# Altium integrated library Actel 42MX.IntLib: 261 symbols (part 14 of 17)
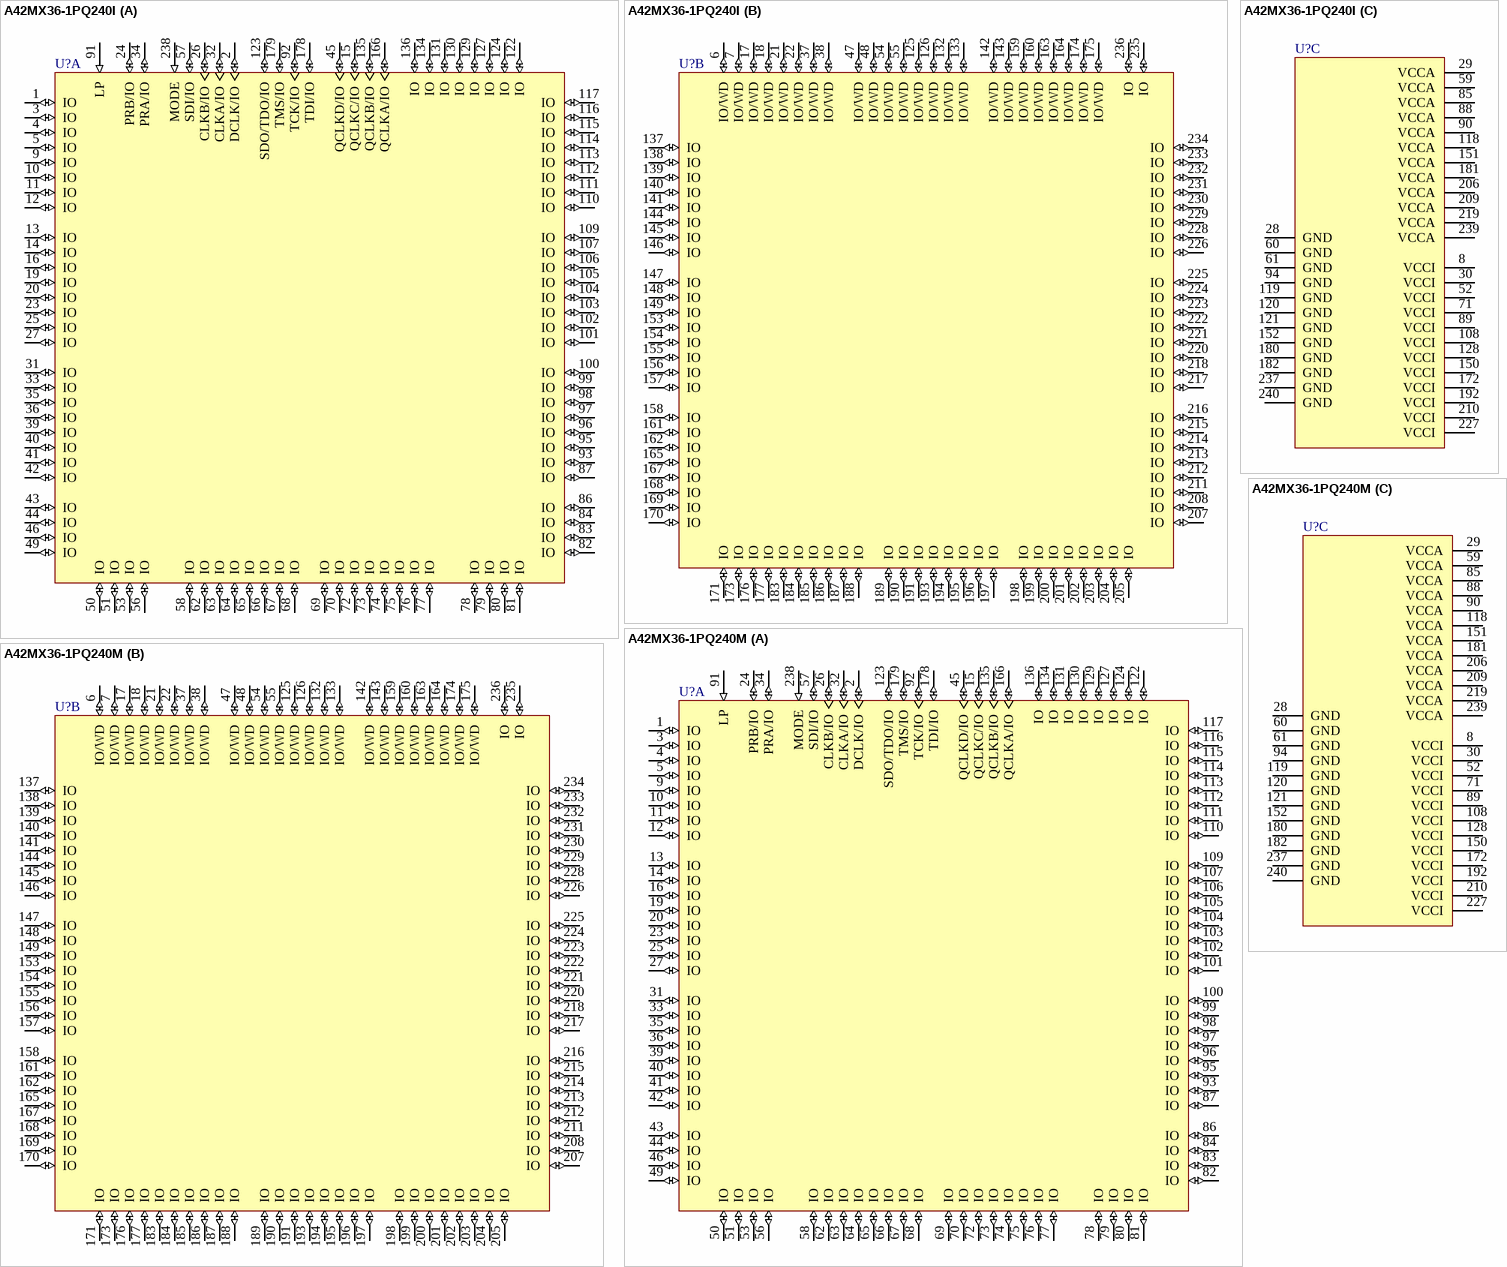
[diagram p134: symbols A42MX36-1PQ240I to A42MX36-1PQ240M]

## A42MX36-1PQ240I
designator U?
A42MX36 FPGA, 202 User IOs, 240-Pin PQFP, Speed Grade 1, Industrial Grade; Published: 21-May-2003; LatestRevisionDate: 13-Apr-2006; LatestRevisionNote: IPC-7351 Footprint Added.; DatasheetVersion: v6.0 Jan-2004; PackageVersion: v9.2, Apr-2006; PackageReference: PQ240; Publisher: Altium Limited; PackageDescription: 240-Pin Plastic Quad Flat Pack (PQ240); Code_JEDEC: MS-029-GA; ComponentLink1Description: Manufacturer Link; ComponentLink1URL: http://www.actel.com/products/mx/index.html; ComponentLink2Description: Datasheet; ComponentLink2URL: http://www.actel.com/documents/MXDS.pdf
footprint PQ240_N (Shrink QFP, 240-Leads, Body 32x32mm, Pitch 0.5mm, IPC Medium Density)
footprint PQ240_L (Shrink QFP, 240-Leads, Body 32x32mm, Pitch 0.5mm, IPC High Density)
footprint PQ240_M (Shrink QFP, 240-Leads, Body 32x32mm, Pitch 0.5mm, IPC Low Density)
3D model A42MX36-PQ240 (240-Pin Plastic Quad Flat Pack (PQ240))
part A pins: 1 IO (io), 2 DCLK/IO (io), 3 IO (io), 4 IO (io), 5 IO (io), 9 IO (io), 10 IO (io), 11 IO (io), 12 IO (io), 13 IO (io), 14 IO (io), 15 QCLKC/IO (io), 16 IO (io), 19 IO (io), 20 IO (io), 23 IO (io), 24 PRB/IO (io), 25 IO (io), 26 CLKB/IO (io), 27 IO (io), 31 IO (io), 32 CLKA/IO (io), 33 IO (io), 34 PRA/IO (io), 35 IO (io), 36 IO (io), 39 IO (io), 40 IO (io), 41 IO (io), 42 IO (io), 43 IO (io), 44 IO (io), 45 QCLKD/IO (io), 46 IO (io), 49 IO (io), 50 IO (io), 51 IO (io), 53 IO (io), 56 IO (io), 57 SDI/IO (io), 58 IO (io), 62 IO (io), 63 IO (io), 64 IO (io), 65 IO (io), 66 IO (io), 67 IO (io), 68 IO (io), 69 IO (io), 70 IO (io), 72 IO (io), 73 IO (io), 74 IO (io), 75 IO (io), 76 IO (io), 77 IO (io), 78 IO (io), 79 IO (io), 80 IO (io), 81 IO (io), 82 IO (io), 83 IO (io), 84 IO (io), 86 IO (io), 87 IO (io), 91 LP (in) "Datasheet Ver6.0", 92 TCK/IO (io), 93 IO (io), 95 IO (io), 96 IO (io), 97 IO (io), 98 IO (io), 99 IO (io), 100 IO (io), 101 IO (io), 102 IO (io), 103 IO (io), 104 IO (io), 105 IO (io), 106 IO (io), 107 IO (io), 109 IO (io), 110 IO (io), 111 IO (io), 112 IO (io), 113 IO (io), 114 IO (io), 115 IO (io), 116 IO (io), 117 IO (io), 122 IO (io), 123 SDO/TDO/IO (io), 124 IO (io), 127 IO (io), 129 IO (io), 130 IO (io), 131 IO (io), 134 IO (io), 135 QCLKB/IO (io), 136 IO (io), 166 QCLKA/IO (io), 178 TDI/IO (io), 179 TMS/IO (io), 238 MODE (in)
part B pins: 6 IO/WD (io), 7 IO/WD (io), 17 IO/WD (io), 18 IO/WD (io), 21 IO/WD (io), 22 IO/WD (io), 37 IO/WD (io), 38 IO/WD (io), 47 IO/WD (io), 48 IO/WD (io), 54 IO/WD (io), 55 IO/WD (io), 125 IO/WD (io), 126 IO/WD (io), 132 IO/WD (io), 133 IO/WD (io), 137 IO (io), 138 IO (io), 139 IO (io), 140 IO (io), 141 IO (io), 142 IO/WD (io), 143 IO/WD (io), 144 IO (io), 145 IO (io), 146 IO (io), 147 IO (io), 148 IO (io), 149 IO (io), 153 IO (io), 154 IO (io), 155 IO (io), 156 IO (io), 157 IO (io), 158 IO (io), 159 IO/WD (io), 160 IO/WD (io), 161 IO (io), 162 IO (io), 163 IO/WD (io), 164 IO/WD (io), 165 IO (io), 167 IO (io), 168 IO (io), 169 IO (io), 170 IO (io), 171 IO (io), 173 IO (io), 174 IO/WD (io), 175 IO/WD (io), 176 IO (io), 177 IO (io), 183 IO (io), 184 IO (io), 185 IO (io), 186 IO (io), 187 IO (io), 188 IO (io), 189 IO (io), 190 IO (io), 191 IO (io), 193 IO (io), 194 IO (io), 195 IO (io), 196 IO (io), 197 IO (io), 198 IO (io), 199 IO (io), 200 IO (io), 201 IO (io), 202 IO (io), 203 IO (io), 204 IO (io), 205 IO (io), 207 IO (io), 208 IO (io), 211 IO (io), 212 IO (io), 213 IO (io), 214 IO (io), 215 IO (io), 216 IO (io), 217 IO (io), 218 IO (io), 220 IO (io), 221 IO (io), 222 IO (io), 223 IO (io), 224 IO (io), 225 IO (io), 226 IO (io), 228 IO (io), 229 IO (io), 230 IO (io), 231 IO (io), 232 IO (io), 233 IO (io), 234 IO (io), 235 IO (io), 236 IO (io)
part C pins: 8 VCCI (power), 28 GND (power), 29 VCCA (power), 30 VCCI (power), 52 VCCI (power), 59 VCCA (power), 60 GND (power), 61 GND (power), 71 VCCI (power), 85 VCCA (power), 88 VCCA (power), 89 VCCI (power), 90 VCCA (power), 94 GND (power), 108 VCCI (power), 118 VCCA (power), 119 GND (power), 120 GND (power), 121 GND (power), 128 VCCI (power), 150 VCCI (power), 151 VCCA (power), 152 GND (power), 172 VCCI (power), 180 GND (power), 181 VCCA (power), 182 GND (power), 192 VCCI (power), 206 VCCA (power), 209 VCCA (power), 210 VCCI (power), 219 VCCA (power), 227 VCCI (power), 237 GND (power), 239 VCCA (power), 240 GND (power)

## A42MX36-1PQ240M
designator U?
A42MX36 FPGA, 202 User IOs, 240-Pin PQFP, Speed Grade 1, Military Grade; Published: 21-May-2003; LatestRevisionDate: 13-Apr-2006; LatestRevisionNote: IPC-7351 Footprint Added.; DatasheetVersion: v6.0 Jan-2004; PackageVersion: v9.2, Apr-2006; PackageReference: PQ240; Publisher: Altium Limited; PackageDescription: 240-Pin Plastic Quad Flat Pack (PQ240); Code_JEDEC: MS-029-GA; ComponentLink1Description: Manufacturer Link; ComponentLink1URL: http://www.actel.com/products/mx/index.html; ComponentLink2Description: Datasheet; ComponentLink2URL: http://www.actel.com/documents/MXDS.pdf
footprint PQ240_N (Shrink QFP, 240-Leads, Body 32x32mm, Pitch 0.5mm, IPC Medium Density)
footprint PQ240_L (Shrink QFP, 240-Leads, Body 32x32mm, Pitch 0.5mm, IPC High Density)
footprint PQ240_M (Shrink QFP, 240-Leads, Body 32x32mm, Pitch 0.5mm, IPC Low Density)
3D model A42MX36-PQ240 (240-Pin Plastic Quad Flat Pack (PQ240))
part A pins: 1 IO (io), 2 DCLK/IO (io), 3 IO (io), 4 IO (io), 5 IO (io), 9 IO (io), 10 IO (io), 11 IO (io), 12 IO (io), 13 IO (io), 14 IO (io), 15 QCLKC/IO (io), 16 IO (io), 19 IO (io), 20 IO (io), 23 IO (io), 24 PRB/IO (io), 25 IO (io), 26 CLKB/IO (io), 27 IO (io), 31 IO (io), 32 CLKA/IO (io), 33 IO (io), 34 PRA/IO (io), 35 IO (io), 36 IO (io), 39 IO (io), 40 IO (io), 41 IO (io), 42 IO (io), 43 IO (io), 44 IO (io), 45 QCLKD/IO (io), 46 IO (io), 49 IO (io), 50 IO (io), 51 IO (io), 53 IO (io), 56 IO (io), 57 SDI/IO (io), 58 IO (io), 62 IO (io), 63 IO (io), 64 IO (io), 65 IO (io), 66 IO (io), 67 IO (io), 68 IO (io), 69 IO (io), 70 IO (io), 72 IO (io), 73 IO (io), 74 IO (io), 75 IO (io), 76 IO (io), 77 IO (io), 78 IO (io), 79 IO (io), 80 IO (io), 81 IO (io), 82 IO (io), 83 IO (io), 84 IO (io), 86 IO (io), 87 IO (io), 91 LP (in) "Datasheet Ver6.0", 92 TCK/IO (io), 93 IO (io), 95 IO (io), 96 IO (io), 97 IO (io), 98 IO (io), 99 IO (io), 100 IO (io), 101 IO (io), 102 IO (io), 103 IO (io), 104 IO (io), 105 IO (io), 106 IO (io), 107 IO (io), 109 IO (io), 110 IO (io), 111 IO (io), 112 IO (io), 113 IO (io), 114 IO (io), 115 IO (io), 116 IO (io), 117 IO (io), 122 IO (io), 123 SDO/TDO/IO (io), 124 IO (io), 127 IO (io), 129 IO (io), 130 IO (io), 131 IO (io), 134 IO (io), 135 QCLKB/IO (io), 136 IO (io), 166 QCLKA/IO (io), 178 TDI/IO (io), 179 TMS/IO (io), 238 MODE (in)
part B pins: 6 IO/WD (io), 7 IO/WD (io), 17 IO/WD (io), 18 IO/WD (io), 21 IO/WD (io), 22 IO/WD (io), 37 IO/WD (io), 38 IO/WD (io), 47 IO/WD (io), 48 IO/WD (io), 54 IO/WD (io), 55 IO/WD (io), 125 IO/WD (io), 126 IO/WD (io), 132 IO/WD (io), 133 IO/WD (io), 137 IO (io), 138 IO (io), 139 IO (io), 140 IO (io), 141 IO (io), 142 IO/WD (io), 143 IO/WD (io), 144 IO (io), 145 IO (io), 146 IO (io), 147 IO (io), 148 IO (io), 149 IO (io), 153 IO (io), 154 IO (io), 155 IO (io), 156 IO (io), 157 IO (io), 158 IO (io), 159 IO/WD (io), 160 IO/WD (io), 161 IO (io), 162 IO (io), 163 IO/WD (io), 164 IO/WD (io), 165 IO (io), 167 IO (io), 168 IO (io), 169 IO (io), 170 IO (io), 171 IO (io), 173 IO (io), 174 IO/WD (io), 175 IO/WD (io), 176 IO (io), 177 IO (io), 183 IO (io), 184 IO (io), 185 IO (io), 186 IO (io), 187 IO (io), 188 IO (io), 189 IO (io), 190 IO (io), 191 IO (io), 193 IO (io), 194 IO (io), 195 IO (io), 196 IO (io), 197 IO (io), 198 IO (io), 199 IO (io), 200 IO (io), 201 IO (io), 202 IO (io), 203 IO (io), 204 IO (io), 205 IO (io), 207 IO (io), 208 IO (io), 211 IO (io), 212 IO (io), 213 IO (io), 214 IO (io), 215 IO (io), 216 IO (io), 217 IO (io), 218 IO (io), 220 IO (io), 221 IO (io), 222 IO (io), 223 IO (io), 224 IO (io), 225 IO (io), 226 IO (io), 228 IO (io), 229 IO (io), 230 IO (io), 231 IO (io), 232 IO (io), 233 IO (io), 234 IO (io), 235 IO (io), 236 IO (io)
part C pins: 8 VCCI (power), 28 GND (power), 29 VCCA (power), 30 VCCI (power), 52 VCCI (power), 59 VCCA (power), 60 GND (power), 61 GND (power), 71 VCCI (power), 85 VCCA (power), 88 VCCA (power), 89 VCCI (power), 90 VCCA (power), 94 GND (power), 108 VCCI (power), 118 VCCA (power), 119 GND (power), 120 GND (power), 121 GND (power), 128 VCCI (power), 150 VCCI (power), 151 VCCA (power), 152 GND (power), 172 VCCI (power), 180 GND (power), 181 VCCA (power), 182 GND (power), 192 VCCI (power), 206 VCCA (power), 209 VCCA (power), 210 VCCI (power), 219 VCCA (power), 227 VCCI (power), 237 GND (power), 239 VCCA (power), 240 GND (power)

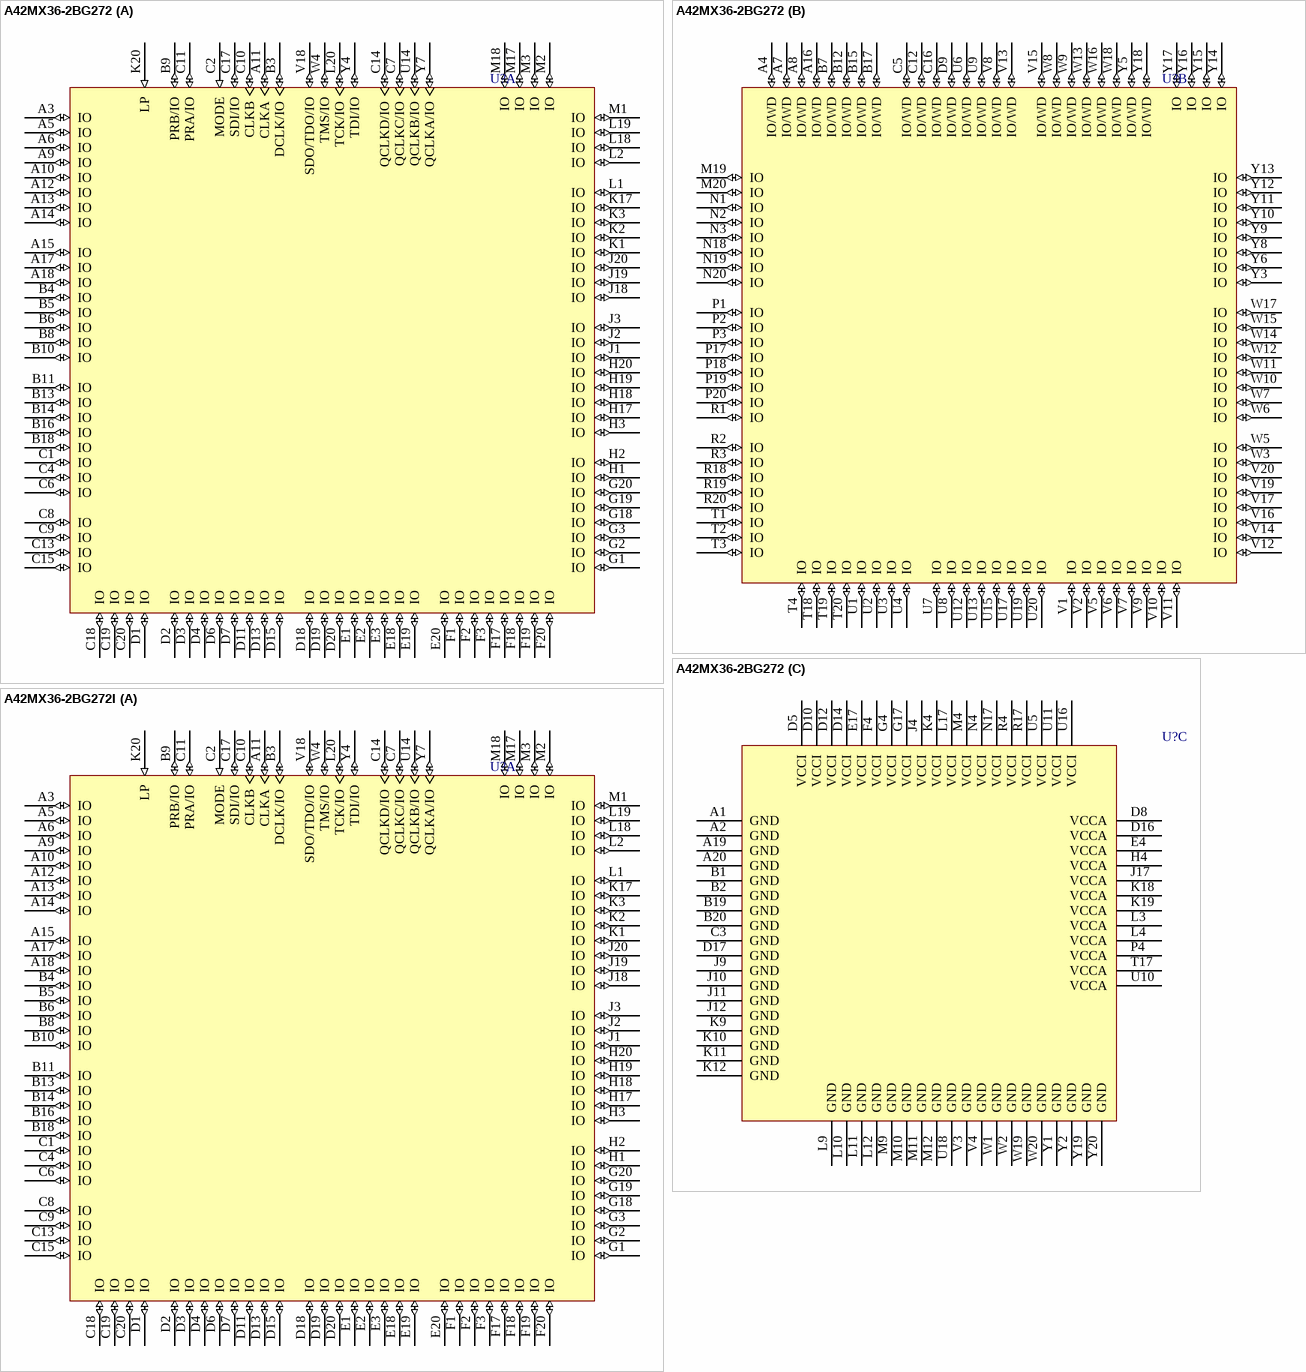
[diagram p95: symbols A42MX36-2BG272 to A42MX36-2BG272I]

## A42MX36-2BG272
designator U?
A42MX36 FPGA, 70 User IOs, 272-Pin PBGA, Speed Grade 2, Commercial Grade; Published: 21-May-2003; LatestRevisionDate: 13-Apr-2006; LatestRevisionNote: IPC-7351 Footprint Added.; DatasheetVersion: v6.0 Jan-2004; PackageVersion: v9.2, Apr-2006; PackageReference: BG272; Publisher: Altium Limited; PackageDescription: 272-Ball Plastic Ball Grid Array (BG272); Code_JEDEC: MS-034-BAL-2; ComponentLink1Description: Manufacturer Link; ComponentLink1URL: http://www.actel.com/products/mx/index.html; ComponentLink2Description: Datasheet; ComponentLink2URL: http://www.actel.com/documents/MXDS.pdf
footprint BG272 (BGA, 272-Leads, Body 27x27mm, Pitch 1.27mm)
3D model A42MX36-BG272 (272-Ball Plastic Ball Grid Array (BG272))
part A pins: A3 IO (io), A5 IO (io), A6 IO (io), A9 IO (io), A10 IO (io), A11 CLKA (io), A12 IO (io), A13 IO (io), A14 IO (io), A15 IO (io), A17 IO (io), A18 IO (io), B3 DCLK/IO (io), B4 IO (io), B5 IO (io), B6 IO (io), B8 IO (io), B9 PRB/IO (io), B10 IO (io), B11 IO (io), B13 IO (io), B14 IO (io), B16 IO (io), B18 IO (io), C1 IO (io), C2 MODE (in), C4 IO (io), C6 IO (io), C7 QCLKC/IO (io), C8 IO (io), C9 IO (io), C10 CLKB (io), C11 PRA/IO (io), C13 IO (io), C14 QCLKD/IO (io), C15 IO (io), C17 SDI/IO (io), C18 IO (io), C19 IO (io), C20 IO (io), D1 IO (io), D2 IO (io), D3 IO (io), D4 IO (io), D6 IO (io), D7 IO (io), D11 IO (io), D13 IO (io), D15 IO (io), D18 IO (io), D19 IO (io), D20 IO (io), E1 IO (io), E2 IO (io), E3 IO (io), E18 IO (io), E19 IO (io), E20 IO (io), F1 IO (io), F2 IO (io), F3 IO (io), F17 IO (io), F18 IO (io), F19 IO (io), F20 IO (io), G1 IO (io), G2 IO (io), G3 IO (io), G18 IO (io), G19 IO (io), G20 IO (io), H1 IO (io), H2 IO (io), H3 IO (io), H17 IO (io), H18 IO (io), H19 IO (io), H20 IO (io), J1 IO (io), J2 IO (io), J3 IO (io), J18 IO (io), J19 IO (io), J20 IO (io), K1 IO (io), K2 IO (io), K3 IO (io), K17 IO (io), K20 LP (in), L1 IO (io), L2 IO (io), L18 IO (io), L19 IO (io), L20 TCK/IO (io), M1 IO (io), M2 IO (io), M3 IO (io), M17 IO (io), M18 IO (io), U14 QCLKB/IO (io), V18 SDO/TDO/IO (io), W4 TMS/IO (io), Y4 TDI/IO (io), Y7 QCLKA/IO (io)
part B pins: A4 IO/WD (io), A7 IO/WD (io), A8 IO/WD (io), A16 IO/WD (io), B7 IO/WD (io), B12 IO/WD (io), B15 IO/WD (io), B17 IO/WD (io), C5 IO/WD (io), C12 IO/WD (io), C16 IO/WD (io), D9 IO/WD (io), M19 IO (io), M20 IO (io), N1 IO (io), N2 IO (io), N3 IO (io), N18 IO (io), N19 IO (io), N20 IO (io), P1 IO (io), P2 IO (io), P3 IO (io), P17 IO (io), P18 IO (io), P19 IO (io), P20 IO (io), R1 IO (io), R2 IO (io), R3 IO (io), R18 IO (io), R19 IO (io), R20 IO (io), T1 IO (io), T2 IO (io), T3 IO (io), T4 IO (io), T18 IO (io), T19 IO (io), T20 IO (io), U1 IO (io), U2 IO (io), U3 IO (io), U4 IO (io), U6 IO/WD (io), U7 IO (io), U8 IO (io), U9 IO/WD (io), U12 IO (io), U13 IO (io), U15 IO (io), U17 IO (io), U19 IO (io), U20 IO (io), V1 IO (io), V2 IO (io), V5 IO (io), V6 IO (io), V7 IO (io), V8 IO/WD (io), V9 IO (io), V10 IO (io), V11 IO (io), V12 IO (io), V13 IO/WD (io), V14 IO (io), V15 IO/WD (io), V16 IO (io), V17 IO (io), V19 IO (io), V20 IO (io), W3 IO (io), W5 IO (io), W6 IO (io), W7 IO (io), W8 IO/WD (io), W9 IO/WD (io), W10 IO (io), W11 IO (io), W12 IO (io), W13 IO/WD (io), W14 IO (io), W15 IO (io), W16 IO/WD (io), W17 IO (io), W18 IO/WD (io), Y3 IO (io), Y5 IO/WD (io), Y6 IO (io), Y8 IO (io), Y9 IO (io), Y10 IO (io), Y11 IO (io), Y12 IO (io), Y13 IO (io), Y14 IO (io), Y15 IO (io), Y16 IO (io), Y17 IO (io), Y18 IO/WD (io)
part C pins: A1 GND (power), A2 GND (power), A19 GND (power), A20 GND (power), B1 GND (power), B2 GND (power), B19 GND (power), B20 GND (power), C3 GND (power), D5 VCCI (power), D8 VCCA (power), D10 VCCI (power), D12 VCCI (power), D14 VCCI (power), D16 VCCA (power), D17 GND (power), E4 VCCA (power), E17 VCCI (power), F4 VCCI (power), G4 VCCI (power), G17 VCCI (power), H4 VCCA (power), J4 VCCI (power), J9 GND (power), J10 GND (power), J11 GND (power), J12 GND (power), J17 VCCA (power), K4 VCCI (power), K9 GND (power), K10 GND (power), K11 GND (power), K12 GND (power), K18 VCCA (power), K19 VCCA (power), L3 VCCA (power), L4 VCCA (power), L9 GND (power), L10 GND (power), L11 GND (power), L12 GND (power), L17 VCCI (power), M4 VCCI (power), M9 GND (power), M10 GND (power), M11 GND (power), M12 GND (power), N4 VCCI (power), N17 VCCI (power), P4 VCCA (power), R4 VCCI (power), R17 VCCI (power), T17 VCCA (power), U5 VCCI (power), U10 VCCA (power), U11 VCCI (power), U16 VCCI (power), U18 GND (power), V3 GND (power), V4 GND (power), W1 GND (power), W2 GND (power), W19 GND (power), W20 GND (power), Y1 GND (power), Y2 GND (power), Y19 GND (power), Y20 GND (power)

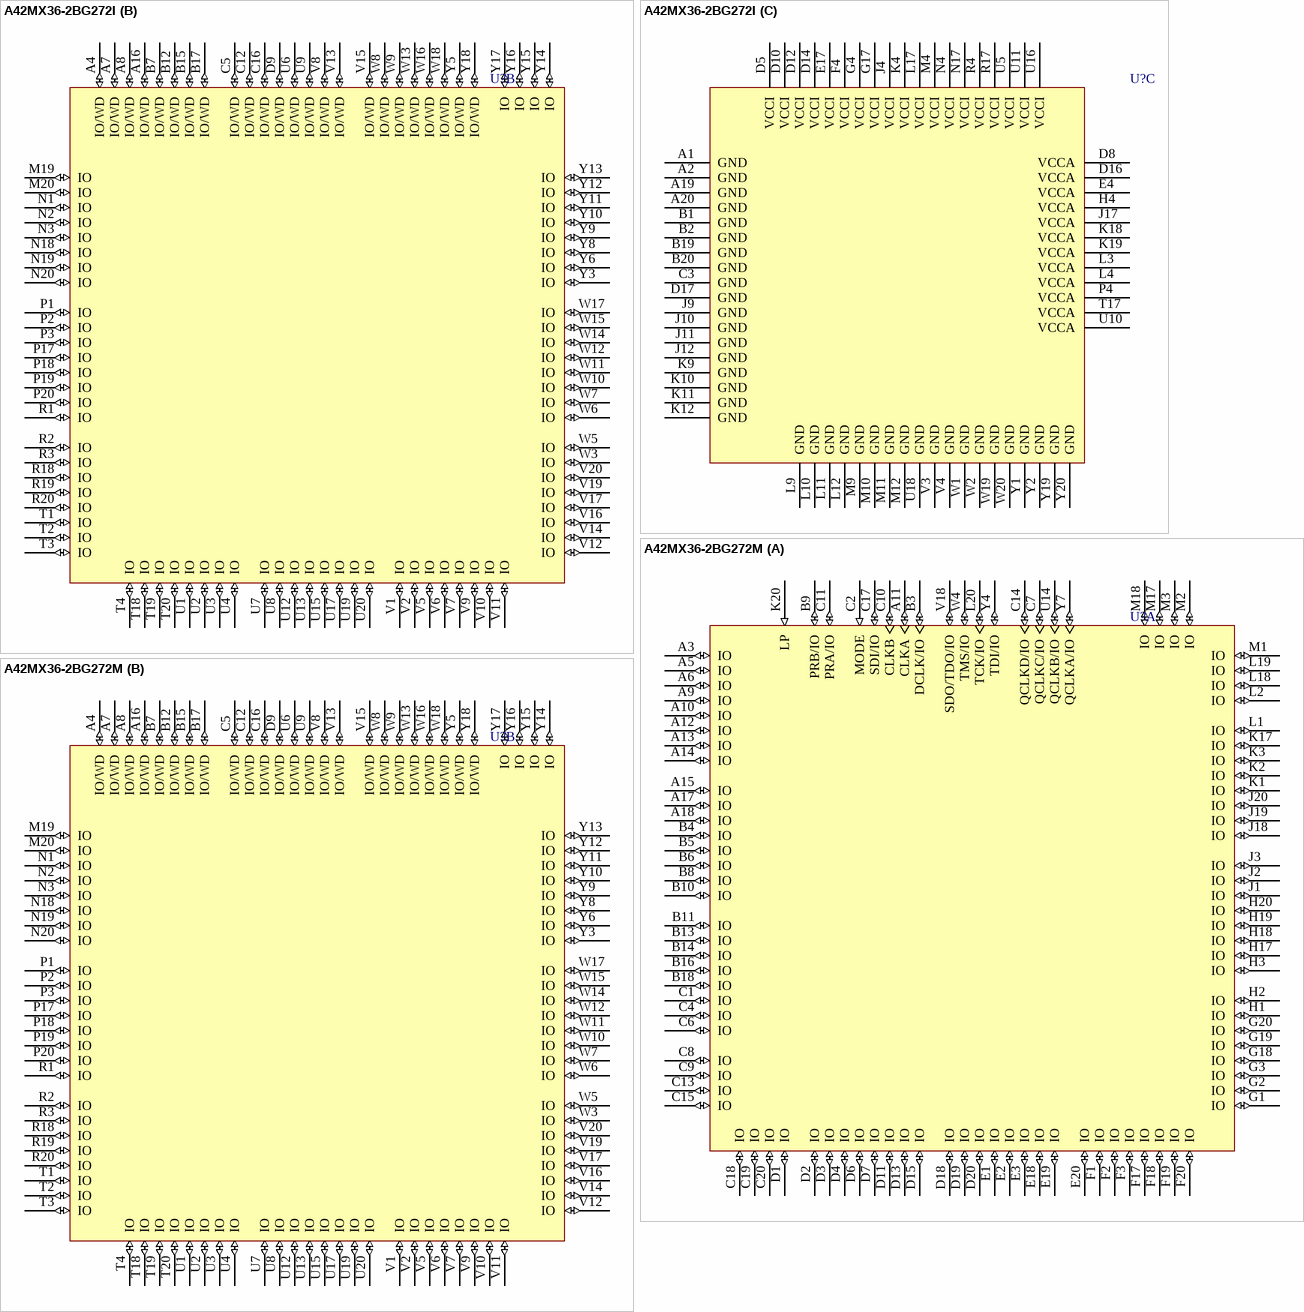
[diagram p96: symbols A42MX36-2BG272I to A42MX36-2BG272M]

## A42MX36-2BG272I
designator U?
A42MX36 FPGA, 70 User IOs, 272-Pin PBGA, Speed Grade 2, Industrial Grade; Published: 21-May-2003; LatestRevisionDate: 13-Apr-2006; LatestRevisionNote: IPC-7351 Footprint Added.; DatasheetVersion: v6.0 Jan-2004; PackageVersion: v9.2, Apr-2006; PackageReference: BG272; Publisher: Altium Limited; PackageDescription: 272-Ball Plastic Ball Grid Array (BG272); Code_JEDEC: MS-034-BAL-2; ComponentLink1Description: Manufacturer Link; ComponentLink1URL: http://www.actel.com/products/mx/index.html; ComponentLink2Description: Datasheet; ComponentLink2URL: http://www.actel.com/documents/MXDS.pdf
footprint BG272 (BGA, 272-Leads, Body 27x27mm, Pitch 1.27mm)
3D model A42MX36-BG272 (272-Ball Plastic Ball Grid Array (BG272))
part A pins: A3 IO (io), A5 IO (io), A6 IO (io), A9 IO (io), A10 IO (io), A11 CLKA (io), A12 IO (io), A13 IO (io), A14 IO (io), A15 IO (io), A17 IO (io), A18 IO (io), B3 DCLK/IO (io), B4 IO (io), B5 IO (io), B6 IO (io), B8 IO (io), B9 PRB/IO (io), B10 IO (io), B11 IO (io), B13 IO (io), B14 IO (io), B16 IO (io), B18 IO (io), C1 IO (io), C2 MODE (in), C4 IO (io), C6 IO (io), C7 QCLKC/IO (io), C8 IO (io), C9 IO (io), C10 CLKB (io), C11 PRA/IO (io), C13 IO (io), C14 QCLKD/IO (io), C15 IO (io), C17 SDI/IO (io), C18 IO (io), C19 IO (io), C20 IO (io), D1 IO (io), D2 IO (io), D3 IO (io), D4 IO (io), D6 IO (io), D7 IO (io), D11 IO (io), D13 IO (io), D15 IO (io), D18 IO (io), D19 IO (io), D20 IO (io), E1 IO (io), E2 IO (io), E3 IO (io), E18 IO (io), E19 IO (io), E20 IO (io), F1 IO (io), F2 IO (io), F3 IO (io), F17 IO (io), F18 IO (io), F19 IO (io), F20 IO (io), G1 IO (io), G2 IO (io), G3 IO (io), G18 IO (io), G19 IO (io), G20 IO (io), H1 IO (io), H2 IO (io), H3 IO (io), H17 IO (io), H18 IO (io), H19 IO (io), H20 IO (io), J1 IO (io), J2 IO (io), J3 IO (io), J18 IO (io), J19 IO (io), J20 IO (io), K1 IO (io), K2 IO (io), K3 IO (io), K17 IO (io), K20 LP (in), L1 IO (io), L2 IO (io), L18 IO (io), L19 IO (io), L20 TCK/IO (io), M1 IO (io), M2 IO (io), M3 IO (io), M17 IO (io), M18 IO (io), U14 QCLKB/IO (io), V18 SDO/TDO/IO (io), W4 TMS/IO (io), Y4 TDI/IO (io), Y7 QCLKA/IO (io)
part B pins: A4 IO/WD (io), A7 IO/WD (io), A8 IO/WD (io), A16 IO/WD (io), B7 IO/WD (io), B12 IO/WD (io), B15 IO/WD (io), B17 IO/WD (io), C5 IO/WD (io), C12 IO/WD (io), C16 IO/WD (io), D9 IO/WD (io), M19 IO (io), M20 IO (io), N1 IO (io), N2 IO (io), N3 IO (io), N18 IO (io), N19 IO (io), N20 IO (io), P1 IO (io), P2 IO (io), P3 IO (io), P17 IO (io), P18 IO (io), P19 IO (io), P20 IO (io), R1 IO (io), R2 IO (io), R3 IO (io), R18 IO (io), R19 IO (io), R20 IO (io), T1 IO (io), T2 IO (io), T3 IO (io), T4 IO (io), T18 IO (io), T19 IO (io), T20 IO (io), U1 IO (io), U2 IO (io), U3 IO (io), U4 IO (io), U6 IO/WD (io), U7 IO (io), U8 IO (io), U9 IO/WD (io), U12 IO (io), U13 IO (io), U15 IO (io), U17 IO (io), U19 IO (io), U20 IO (io), V1 IO (io), V2 IO (io), V5 IO (io), V6 IO (io), V7 IO (io), V8 IO/WD (io), V9 IO (io), V10 IO (io), V11 IO (io), V12 IO (io), V13 IO/WD (io), V14 IO (io), V15 IO/WD (io), V16 IO (io), V17 IO (io), V19 IO (io), V20 IO (io), W3 IO (io), W5 IO (io), W6 IO (io), W7 IO (io), W8 IO/WD (io), W9 IO/WD (io), W10 IO (io), W11 IO (io), W12 IO (io), W13 IO/WD (io), W14 IO (io), W15 IO (io), W16 IO/WD (io), W17 IO (io), W18 IO/WD (io), Y3 IO (io), Y5 IO/WD (io), Y6 IO (io), Y8 IO (io), Y9 IO (io), Y10 IO (io), Y11 IO (io), Y12 IO (io), Y13 IO (io), Y14 IO (io), Y15 IO (io), Y16 IO (io), Y17 IO (io), Y18 IO/WD (io)
part C pins: A1 GND (power), A2 GND (power), A19 GND (power), A20 GND (power), B1 GND (power), B2 GND (power), B19 GND (power), B20 GND (power), C3 GND (power), D5 VCCI (power), D8 VCCA (power), D10 VCCI (power), D12 VCCI (power), D14 VCCI (power), D16 VCCA (power), D17 GND (power), E4 VCCA (power), E17 VCCI (power), F4 VCCI (power), G4 VCCI (power), G17 VCCI (power), H4 VCCA (power), J4 VCCI (power), J9 GND (power), J10 GND (power), J11 GND (power), J12 GND (power), J17 VCCA (power), K4 VCCI (power), K9 GND (power), K10 GND (power), K11 GND (power), K12 GND (power), K18 VCCA (power), K19 VCCA (power), L3 VCCA (power), L4 VCCA (power), L9 GND (power), L10 GND (power), L11 GND (power), L12 GND (power), L17 VCCI (power), M4 VCCI (power), M9 GND (power), M10 GND (power), M11 GND (power), M12 GND (power), N4 VCCI (power), N17 VCCI (power), P4 VCCA (power), R4 VCCI (power), R17 VCCI (power), T17 VCCA (power), U5 VCCI (power), U10 VCCA (power), U11 VCCI (power), U16 VCCI (power), U18 GND (power), V3 GND (power), V4 GND (power), W1 GND (power), W2 GND (power), W19 GND (power), W20 GND (power), Y1 GND (power), Y2 GND (power), Y19 GND (power), Y20 GND (power)

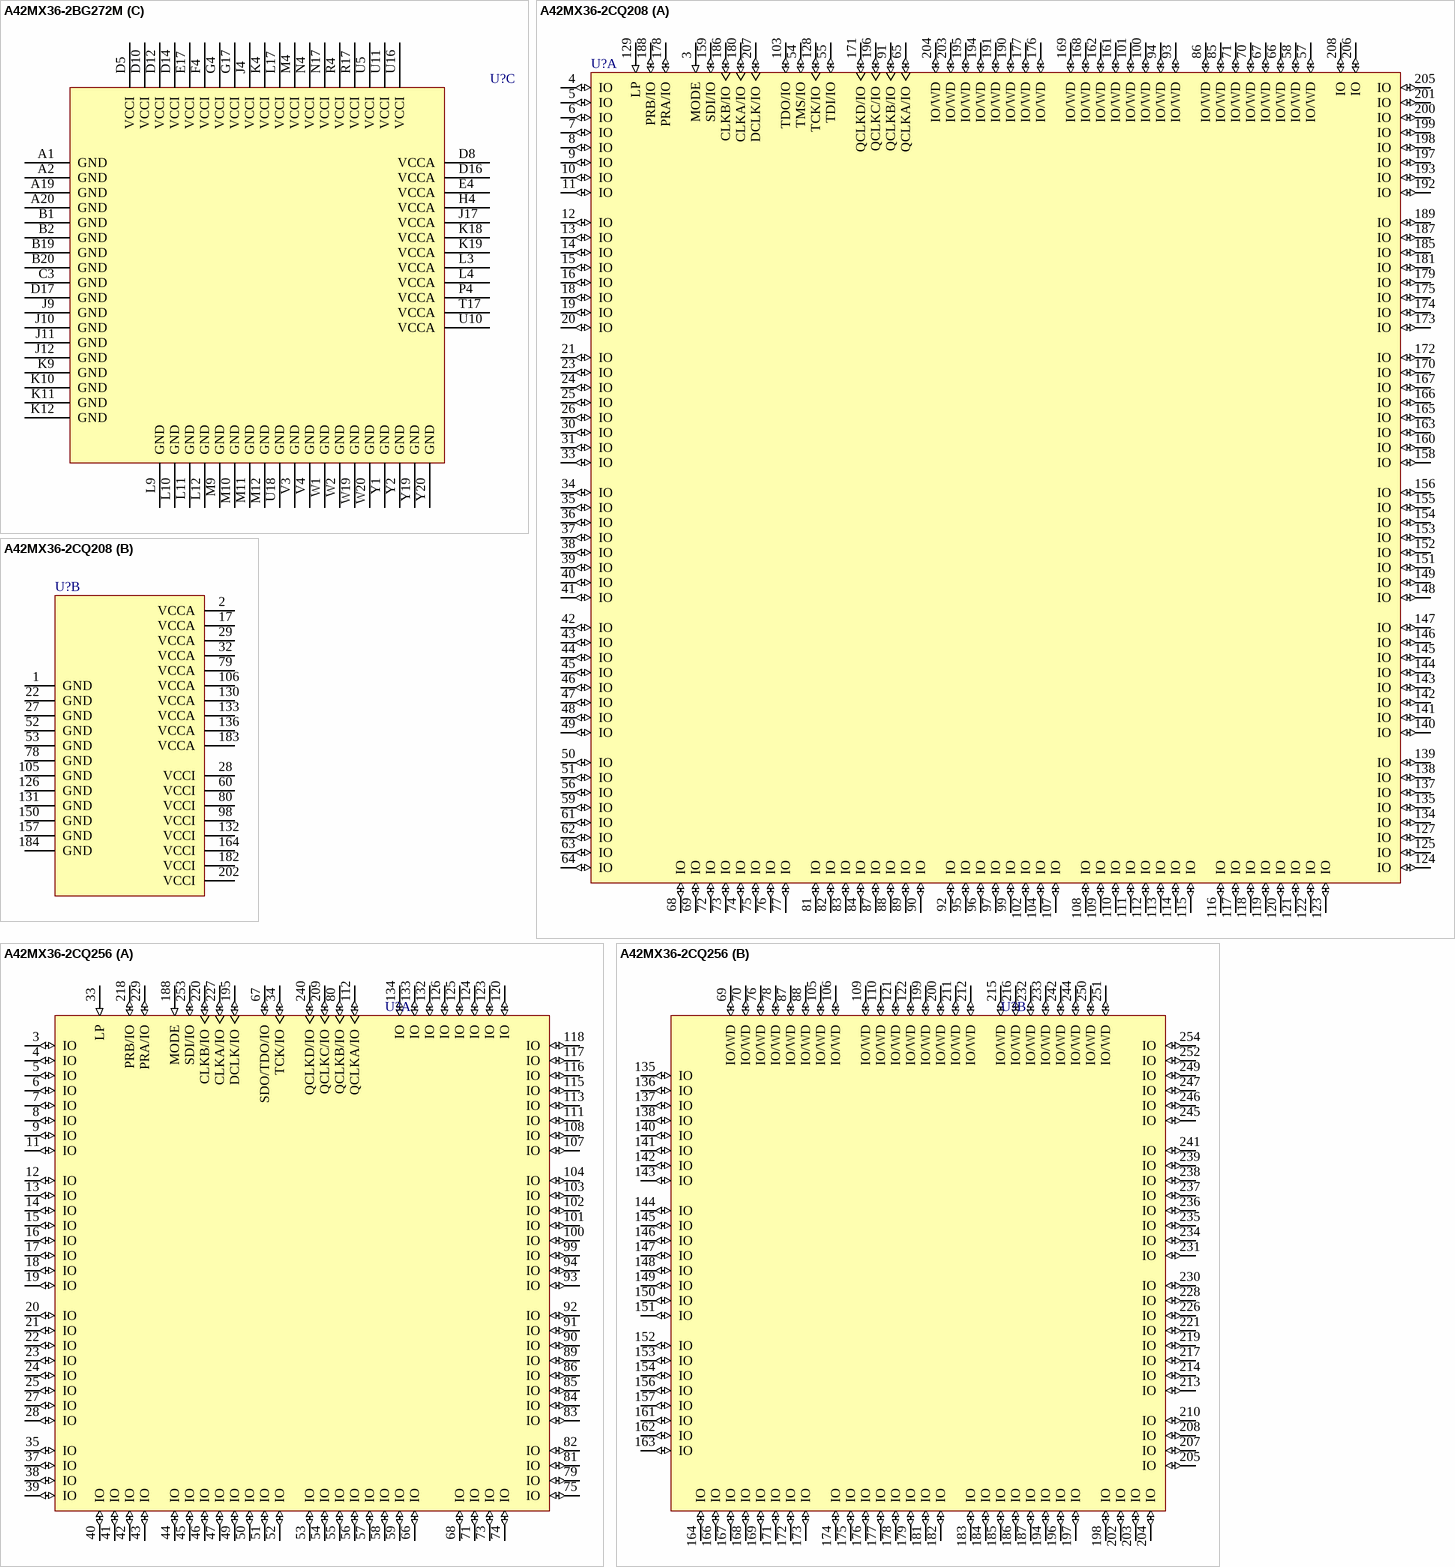
[diagram p97: symbols A42MX36-2BG272M to A42MX36-2CQ256]

## A42MX36-2BG272M
designator U?
A42MX36 FPGA, 70 User IOs, 272-Pin PBGA, Speed Grade 2, Military Grade; Published: 21-May-2003; LatestRevisionDate: 13-Apr-2006; LatestRevisionNote: IPC-7351 Footprint Added.; DatasheetVersion: v6.0 Jan-2004; PackageVersion: v9.2, Apr-2006; PackageReference: BG272; Publisher: Altium Limited; PackageDescription: 272-Ball Plastic Ball Grid Array (BG272); Code_JEDEC: MS-034-BAL-2; ComponentLink1Description: Manufacturer Link; ComponentLink1URL: http://www.actel.com/products/mx/index.html; ComponentLink2Description: Datasheet; ComponentLink2URL: http://www.actel.com/documents/MXDS.pdf
footprint BG272 (BGA, 272-Leads, Body 27x27mm, Pitch 1.27mm)
3D model A42MX36-BG272 (272-Ball Plastic Ball Grid Array (BG272))
part A pins: A3 IO (io), A5 IO (io), A6 IO (io), A9 IO (io), A10 IO (io), A11 CLKA (io), A12 IO (io), A13 IO (io), A14 IO (io), A15 IO (io), A17 IO (io), A18 IO (io), B3 DCLK/IO (io), B4 IO (io), B5 IO (io), B6 IO (io), B8 IO (io), B9 PRB/IO (io), B10 IO (io), B11 IO (io), B13 IO (io), B14 IO (io), B16 IO (io), B18 IO (io), C1 IO (io), C2 MODE (in), C4 IO (io), C6 IO (io), C7 QCLKC/IO (io), C8 IO (io), C9 IO (io), C10 CLKB (io), C11 PRA/IO (io), C13 IO (io), C14 QCLKD/IO (io), C15 IO (io), C17 SDI/IO (io), C18 IO (io), C19 IO (io), C20 IO (io), D1 IO (io), D2 IO (io), D3 IO (io), D4 IO (io), D6 IO (io), D7 IO (io), D11 IO (io), D13 IO (io), D15 IO (io), D18 IO (io), D19 IO (io), D20 IO (io), E1 IO (io), E2 IO (io), E3 IO (io), E18 IO (io), E19 IO (io), E20 IO (io), F1 IO (io), F2 IO (io), F3 IO (io), F17 IO (io), F18 IO (io), F19 IO (io), F20 IO (io), G1 IO (io), G2 IO (io), G3 IO (io), G18 IO (io), G19 IO (io), G20 IO (io), H1 IO (io), H2 IO (io), H3 IO (io), H17 IO (io), H18 IO (io), H19 IO (io), H20 IO (io), J1 IO (io), J2 IO (io), J3 IO (io), J18 IO (io), J19 IO (io), J20 IO (io), K1 IO (io), K2 IO (io), K3 IO (io), K17 IO (io), K20 LP (in), L1 IO (io), L2 IO (io), L18 IO (io), L19 IO (io), L20 TCK/IO (io), M1 IO (io), M2 IO (io), M3 IO (io), M17 IO (io), M18 IO (io), U14 QCLKB/IO (io), V18 SDO/TDO/IO (io), W4 TMS/IO (io), Y4 TDI/IO (io), Y7 QCLKA/IO (io)
part B pins: A4 IO/WD (io), A7 IO/WD (io), A8 IO/WD (io), A16 IO/WD (io), B7 IO/WD (io), B12 IO/WD (io), B15 IO/WD (io), B17 IO/WD (io), C5 IO/WD (io), C12 IO/WD (io), C16 IO/WD (io), D9 IO/WD (io), M19 IO (io), M20 IO (io), N1 IO (io), N2 IO (io), N3 IO (io), N18 IO (io), N19 IO (io), N20 IO (io), P1 IO (io), P2 IO (io), P3 IO (io), P17 IO (io), P18 IO (io), P19 IO (io), P20 IO (io), R1 IO (io), R2 IO (io), R3 IO (io), R18 IO (io), R19 IO (io), R20 IO (io), T1 IO (io), T2 IO (io), T3 IO (io), T4 IO (io), T18 IO (io), T19 IO (io), T20 IO (io), U1 IO (io), U2 IO (io), U3 IO (io), U4 IO (io), U6 IO/WD (io), U7 IO (io), U8 IO (io), U9 IO/WD (io), U12 IO (io), U13 IO (io), U15 IO (io), U17 IO (io), U19 IO (io), U20 IO (io), V1 IO (io), V2 IO (io), V5 IO (io), V6 IO (io), V7 IO (io), V8 IO/WD (io), V9 IO (io), V10 IO (io), V11 IO (io), V12 IO (io), V13 IO/WD (io), V14 IO (io), V15 IO/WD (io), V16 IO (io), V17 IO (io), V19 IO (io), V20 IO (io), W3 IO (io), W5 IO (io), W6 IO (io), W7 IO (io), W8 IO/WD (io), W9 IO/WD (io), W10 IO (io), W11 IO (io), W12 IO (io), W13 IO/WD (io), W14 IO (io), W15 IO (io), W16 IO/WD (io), W17 IO (io), W18 IO/WD (io), Y3 IO (io), Y5 IO/WD (io), Y6 IO (io), Y8 IO (io), Y9 IO (io), Y10 IO (io), Y11 IO (io), Y12 IO (io), Y13 IO (io), Y14 IO (io), Y15 IO (io), Y16 IO (io), Y17 IO (io), Y18 IO/WD (io)
part C pins: A1 GND (power), A2 GND (power), A19 GND (power), A20 GND (power), B1 GND (power), B2 GND (power), B19 GND (power), B20 GND (power), C3 GND (power), D5 VCCI (power), D8 VCCA (power), D10 VCCI (power), D12 VCCI (power), D14 VCCI (power), D16 VCCA (power), D17 GND (power), E4 VCCA (power), E17 VCCI (power), F4 VCCI (power), G4 VCCI (power), G17 VCCI (power), H4 VCCA (power), J4 VCCI (power), J9 GND (power), J10 GND (power), J11 GND (power), J12 GND (power), J17 VCCA (power), K4 VCCI (power), K9 GND (power), K10 GND (power), K11 GND (power), K12 GND (power), K18 VCCA (power), K19 VCCA (power), L3 VCCA (power), L4 VCCA (power), L9 GND (power), L10 GND (power), L11 GND (power), L12 GND (power), L17 VCCI (power), M4 VCCI (power), M9 GND (power), M10 GND (power), M11 GND (power), M12 GND (power), N4 VCCI (power), N17 VCCI (power), P4 VCCA (power), R4 VCCI (power), R17 VCCI (power), T17 VCCA (power), U5 VCCI (power), U10 VCCA (power), U11 VCCI (power), U16 VCCI (power), U18 GND (power), V3 GND (power), V4 GND (power), W1 GND (power), W2 GND (power), W19 GND (power), W20 GND (power), Y1 GND (power), Y2 GND (power), Y19 GND (power), Y20 GND (power)

## A42MX36-2CQ208
designator U?
A42MX36 FPGA, 70 User IOs, 208-Pin CQFP, Speed Grade 2, Commercial Grade; Published: 21-May-2003; LatestRevisionDate: 13-Apr-2006; LatestRevisionNote: IPC-7351 Footprint Added.; DatasheetVersion: v6.0 Jan-2004; PackageVersion: v9.2, Apr-2006; PackageReference: CQ208; Publisher: Altium Limited; PackageDescription: 208-Pin Ceramic Quad Flat Pack (CQFP); ComponentLink1Description: Manufacturer Link; ComponentLink1URL: http://www.actel.com/products/mx/index.html; ComponentLink2Description: Datasheet; ComponentLink2URL: http://www.actel.com/documents/MXDS.pdf
footprint CQ208_N (CQFP, 208-Leads, Body 29x29mm; Pitch 0.5mm, Gullwing Leadform, IPC Medium Density)
footprint CQ208_L (CQFP, 208-Leads, Body 29x29mm; Pitch 0.5mm, Gullwing Leadform, IPC High Density)
footprint CQ208_M (CQFP, 208-Leads, Body 29x29mm; Pitch 0.5mm, Gullwing Leadform, IPC Low Density)
3D model A42MX36-CQ208 (208-Pin Ceramic Quad Flat Pack (CQFP))
part A pins: 3 MODE (in), 4 IO (io), 5 IO (io), 6 IO (io), 7 IO (io), 8 IO (io), 9 IO (io), 10 IO (io), 11 IO (io), 12 IO (io), 13 IO (io), 14 IO (io), 15 IO (io), 16 IO (io), 18 IO (io), 19 IO (io), 20 IO (io), 21 IO (io), 23 IO (io), 24 IO (io), 25 IO (io), 26 IO (io), 30 IO (io), 31 IO (io), 33 IO (io), 34 IO (io), 35 IO (io), 36 IO (io), 37 IO (io), 38 IO (io), 39 IO (io), 40 IO (io), 41 IO (io), 42 IO (io), 43 IO (io), 44 IO (io), 45 IO (io), 46 IO (io), 47 IO (io), 48 IO (io), 49 IO (io), 50 IO (io), 51 IO (io), 54 TMS/IO (io), 55 TDI/IO (io), 56 IO (io), 57 IO/WD (io), 58 IO/WD (io), 59 IO (io), 61 IO (io), 62 IO (io), 63 IO (io), 64 IO (io), 65 QCLKA/IO (io), 66 IO/WD (io), 67 IO/WD (io), 68 IO (io), 69 IO (io), 70 IO/WD (io), 71 IO/WD (io), 72 IO (io), 73 IO (io), 74 IO (io), 75 IO (io), 76 IO (io), 77 IO (io), 81 IO (io), 82 IO (io), 83 IO (io), 84 IO (io), 85 IO/WD (io), 86 IO/WD (io), 87 IO (io), 88 IO (io), 89 IO (io), 90 IO (io), 91 QCLKB/IO (io), 92 IO (io), 93 IO/WD (io), 94 IO/WD (io), 95 IO (io), 96 IO (io), 97 IO (io), 99 IO (io), 100 IO/WD (io), 101 IO/WD (io), 102 IO (io), 103 TDO/IO (io), 104 IO (io), 107 IO (io), 108 IO (io), 109 IO (io), 110 IO (io), 111 IO (io), 112 IO (io), 113 IO (io), 114 IO (io), 115 IO (io), 116 IO (io), 117 IO (io), 118 IO (io), 119 IO (io), 120 IO (io), 121 IO (io), 122 IO (io), 123 IO (io), 124 IO (io), 125 IO (io), 127 IO (io), 128 TCK/IO (io), 129 LP (in), 134 IO (io), 135 IO (io), 137 IO (io), 138 IO (io), 139 IO (io), 140 IO (io), 141 IO (io), 142 IO (io), 143 IO (io), 144 IO (io), 145 IO (io), 146 IO (io), 147 IO (io), 148 IO (io), 149 IO (io), 151 IO (io), 152 IO (io), 153 IO (io), 154 IO (io), 155 IO (io), 156 IO (io), 158 IO (io), 159 SDI/IO (io), 160 IO (io), 161 IO/WD (io), 162 IO/WD (io), 163 IO (io), 165 IO (io), 166 IO (io), 167 IO (io), 168 IO/WD (io), 169 IO/WD (io), 170 IO (io), 171 QCLKD/IO (io), 172 IO (io), 173 IO (io), 174 IO (io), 175 IO (io), 176 IO/WD (io), 177 IO/WD (io), 178 PRA/IO (io), 179 IO (io), 180 CLKA/IO (io), 181 IO (io), 185 IO (io), 186 CLKB/IO (io), 187 IO (io), 188 PRB/IO (io), 189 IO (io), 190 IO/WD (io), 191 IO/WD (io), 192 IO (io), 193 IO (io), 194 IO/WD (io), 195 IO/WD (io), 196 QCLKC/IO (io), 197 IO (io), 198 IO (io), 199 IO (io), 200 IO (io), 201 IO (io), 203 IO/WD (io), 204 IO/WD (io), 205 IO (io), 206 IO (io), 207 DCLK/IO (io), 208 IO (io)
part B pins: 1 GND (power), 2 VCCA (power), 17 VCCA (power), 22 GND (power), 27 GND (power), 28 VCCI (power), 29 VCCA (power), 32 VCCA (power), 52 GND (power), 53 GND (power), 60 VCCI (power), 78 GND (power), 79 VCCA (power), 80 VCCI (power), 98 VCCI (power), 105 GND (power), 106 VCCA (power), 126 GND (power), 130 VCCA (power), 131 GND (power), 132 VCCI (power), 133 VCCA (power), 136 VCCA (power), 150 GND (power), 157 GND (power), 164 VCCI (power), 182 VCCI (power), 183 VCCA (power), 184 GND (power), 202 VCCI (power)

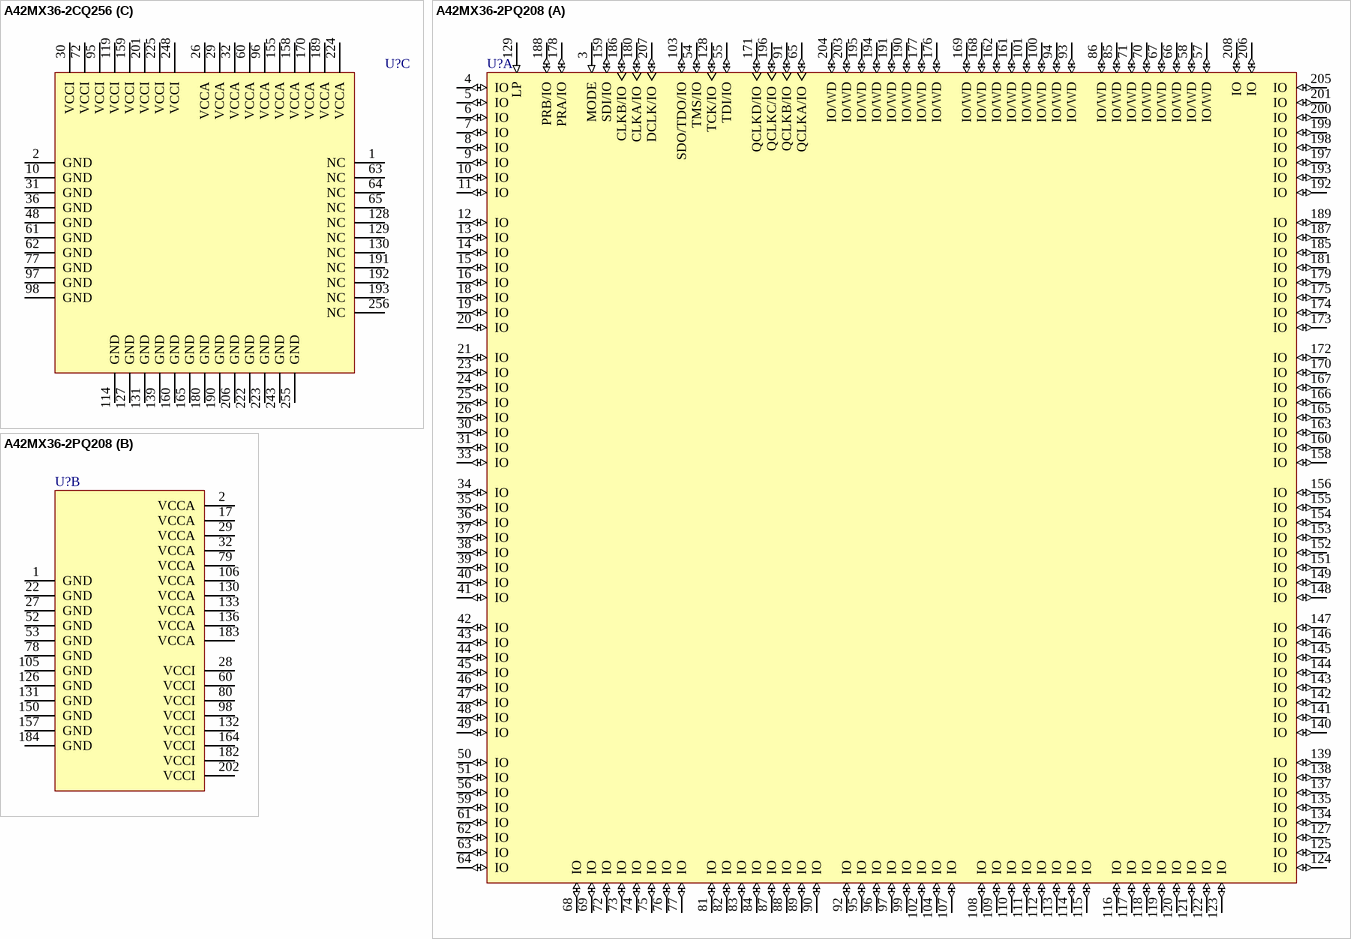
[diagram p98: symbols A42MX36-2CQ256 to A42MX36-2PQ208]

## A42MX36-2CQ256
designator U?
A42MX36 FPGA, 70 User IOs, 256-Pin CQFP, Speed Grade 2, Commercial Grade; Published: 21-May-2003; LatestRevisionDate: 13-Apr-2006; LatestRevisionNote: IPC-7351 Footprint Added.; DatasheetVersion: v6.0 Jan-2004; PackageVersion: v9.2, Apr-2006; PackageReference: CQ256; Publisher: Altium Limited; PackageDescription: 256-Pin Ceramic Quad Flat Pack (CQFP); Code_JEDEC: MO-134-AB; ComponentLink1Description: Manufacturer Link; ComponentLink1URL: http://www.actel.com/products/mx/index.html; ComponentLink2Description: Datasheet; ComponentLink2URL: http://www.actel.com/documents/MXDS.pdf
footprint CQ256_N (CQFP, 256-Leads, Body 36x36mm; Pitch 0.5mm, Gullwing Leadform, IPC Medium Density)
footprint CQ256_L (CQFP, 256-Leads, Body 36x36mm; Pitch 0.5mm, Gullwing Leadform, IPC High Density)
footprint CQ256_M (CQFP, 256-Leads, Body 36x36mm; Pitch 0.5mm, Gullwing Leadform, IPC Low Density)
3D model A42MX36-CQ256 (256-Pin Ceramic Quad Flat Pack (CQFP))
part A pins: 3 IO (io), 4 IO (io), 5 IO (io), 6 IO (io), 7 IO (io), 8 IO (io), 9 IO (io), 11 IO (io), 12 IO (io), 13 IO (io), 14 IO (io), 15 IO (io), 16 IO (io), 17 IO (io), 18 IO (io), 19 IO (io), 20 IO (io), 21 IO (io), 22 IO (io), 23 IO (io), 24 IO (io), 25 IO (io), 27 IO (io), 28 IO (io), 33 LP (in), 34 TCK/IO (io), 35 IO (io), 37 IO (io), 38 IO (io), 39 IO (io), 40 IO (io), 41 IO (io), 42 IO (io), 43 IO (io), 44 IO (io), 45 IO (io), 46 IO (io), 47 IO (io), 49 IO (io), 50 IO (io), 51 IO (io), 52 IO (io), 53 IO (io), 54 IO (io), 55 IO (io), 56 IO (io), 57 IO (io), 58 IO (io), 59 IO (io), 66 IO (io), 67 SDO/TDO/IO (io), 68 IO (io), 71 IO (io), 73 IO (io), 74 IO (io), 75 IO (io), 79 IO (io), 80 QCLKB/IO (io), 81 IO (io), 82 IO (io), 83 IO (io), 84 IO (io), 85 IO (io), 86 IO (io), 89 IO (io), 90 IO (io), 91 IO (io), 92 IO (io), 93 IO (io), 94 IO (io), 99 IO (io), 100 IO (io), 101 IO (io), 102 IO (io), 103 IO (io), 104 IO (io), 107 IO (io), 108 IO (io), 111 IO (io), 112 QCLKA/IO (io), 113 IO (io), 115 IO (io), 116 IO (io), 117 IO (io), 118 IO (io), 120 IO (io), 123 IO (io), 124 IO (io), 125 IO (io), 126 IO (io), 132 IO (io), 133 IO (io), 134 IO (io), 188 MODE (in), 195 DCLK/IO (io), 209 QCLKC/IO (io), 218 PRB/IO (io), 220 CLKB/IO (io), 227 CLKA/IO (io), 229 PRA/IO (io), 240 QCLKD/IO (io), 253 SDI/IO (io)
part B pins: 69 IO/WD (io), 70 IO/WD (io), 76 IO/WD (io), 78 IO/WD (io), 87 IO/WD (io), 88 IO/WD (io), 105 IO/WD (io), 106 IO/WD (io), 109 IO/WD (io), 110 IO/WD (io), 121 IO/WD (io), 122 IO/WD (io), 135 IO (io), 136 IO (io), 137 IO (io), 138 IO (io), 140 IO (io), 141 IO (io), 142 IO (io), 143 IO (io), 144 IO (io), 145 IO (io), 146 IO (io), 147 IO (io), 148 IO (io), 149 IO (io), 150 IO (io), 151 IO (io), 152 IO (io), 153 IO (io), 154 IO (io), 156 IO (io), 157 IO (io), 161 IO (io), 162 IO (io), 163 IO (io), 164 IO (io), 166 IO (io), 167 IO (io), 168 IO (io), 169 IO (io), 171 IO (io), 172 IO (io), 173 IO (io), 174 IO (io), 175 IO (io), 176 IO (io), 177 IO (io), 178 IO (io), 179 IO (io), 181 IO (io), 182 IO (io), 183 IO (io), 184 IO (io), 185 IO (io), 186 IO (io), 187 IO (io), 194 IO (io), 196 IO (io), 197 IO (io), 198 IO (io), 199 IO/WD (io), 200 IO/WD (io), 202 IO (io), 203 IO (io), 204 IO (io), 205 IO (io), 207 IO (io), 208 IO (io), 210 IO (io), 211 IO/WD (io), 212 IO/WD (io), 213 IO (io), 214 IO (io), 215 IO/WD (io), 216 IO/WD (io), 217 IO (io), 219 IO (io), 221 IO (io), 226 IO (io), 228 IO (io), 230 IO (io), 231 IO (io), 232 IO/WD (io), 233 IO/WD (io), 234 IO (io), 235 IO (io), 236 IO (io), 237 IO (io), 238 IO (io), 239 IO (io), 241 IO (io), 242 IO/WD (io), 244 IO/WD (io), 245 IO (io), 246 IO (io), 247 IO (io), 249 IO (io), 250 IO/WD (io), 251 IO/WD (io), 252 IO (io), 254 IO (io)
part C pins: 1 NC, 2 GND (power), 10 GND (power), 26 VCCA (power), 29 VCCA (power), 30 VCCI (power), 31 GND (power), 32 VCCA (power), 36 GND (power), 48 GND (power), 60 VCCA (power), 61 GND (power), 62 GND (power), 63 NC, 64 NC, 65 NC, 72 VCCI (power), 77 GND (power), 95 VCCI (power), 96 VCCA (power), 97 GND (power), 98 GND (power), 114 GND (power), 119 VCCI (power), 127 GND (power), 128 NC, 129 NC, 130 NC, 131 GND (power), 139 GND (power), 155 VCCA (power), 158 VCCA (power), 159 VCCI (power), 160 GND (power), 165 GND (power), 170 VCCA (power), 180 GND (power), 189 VCCA (power), 190 GND (power), 191 NC, 192 NC, 193 NC, 201 VCCI (power), 206 GND (power), 222 GND (power), 223 GND (power), 224 VCCA (power), 225 VCCI (power), 243 GND (power), 248 VCCI (power), 255 GND (power), 256 NC

## A42MX36-2PQ208
designator U?
A42MX36 FPGA, 176 User IOs, 208-Pin PQFP, Speed Grade 2, Commercial Grade; Published: 21-May-2003; LatestRevisionDate: 13-Apr-2006; LatestRevisionNote: IPC-7351 Footprint Added.; DatasheetVersion: v6.0 Jan-2004; PackageVersion: v9.2, Apr-2006; PackageReference: PQ208; Publisher: Altium Limited; PackageDescription: 208-Pin Plastic Quad Flat Pack (PQ208); Code_JEDEC: MS-029-FA-1; ComponentLink1Description: Manufacturer Link; ComponentLink1URL: http://www.actel.com/products/mx/index.html; ComponentLink2Description: Datasheet; ComponentLink2URL: http://www.actel.com/documents/MXDS.pdf
footprint PQ208_N (Shrink QFP, 208-Leads, Body 28x28mm, Pitch 0.5mm, IPC Medium Density)
footprint PQ208_L (Shrink QFP, 208-Leads, Body 28x28mm, Pitch 0.5mm, IPC High Density)
footprint PQ208_M (Shrink QFP, 208-Leads, Body 28x28mm, Pitch 0.5mm, IPC Low Density)
3D model A42MX36-PQ208 (208-Pin Plastic Quad Flat Pack (PQ208))
part A pins: 3 MODE (in), 4 IO (io), 5 IO (io), 6 IO (io), 7 IO (io), 8 IO (io), 9 IO (io), 10 IO (io), 11 IO (io), 12 IO (io), 13 IO (io), 14 IO (io), 15 IO (io), 16 IO (io), 18 IO (io), 19 IO (io), 20 IO (io), 21 IO (io), 23 IO (io), 24 IO (io), 25 IO (io), 26 IO (io), 30 IO (io), 31 IO (io), 33 IO (io), 34 IO (io), 35 IO (io), 36 IO (io), 37 IO (io), 38 IO (io), 39 IO (io), 40 IO (io), 41 IO (io), 42 IO (io), 43 IO (io), 44 IO (io), 45 IO (io), 46 IO (io), 47 IO (io), 48 IO (io), 49 IO (io), 50 IO (io), 51 IO (io), 54 TMS/IO (io), 55 TDI/IO (io), 56 IO (io), 57 IO/WD (io), 58 IO/WD (io), 59 IO (io), 61 IO (io), 62 IO (io), 63 IO (io), 64 IO (io), 65 QCLKA/IO (io), 66 IO/WD (io), 67 IO/WD (io), 68 IO (io), 69 IO (io), 70 IO/WD (io), 71 IO/WD (io), 72 IO (io), 73 IO (io), 74 IO (io), 75 IO (io), 76 IO (io), 77 IO (io), 81 IO (io), 82 IO (io), 83 IO (io), 84 IO (io), 85 IO/WD (io), 86 IO/WD (io), 87 IO (io), 88 IO (io), 89 IO (io), 90 IO (io), 91 QCLKB/IO (io), 92 IO (io), 93 IO/WD (io), 94 IO/WD (io), 95 IO (io), 96 IO (io), 97 IO (io), 99 IO (io), 100 IO/WD (io), 101 IO/WD (io), 102 IO (io), 103 SDO/TDO/IO (io), 104 IO (io), 107 IO (io), 108 IO (io), 109 IO (io), 110 IO (io), 111 IO (io), 112 IO (io), 113 IO (io), 114 IO (io), 115 IO (io), 116 IO (io), 117 IO (io), 118 IO (io), 119 IO (io), 120 IO (io), 121 IO (io), 122 IO (io), 123 IO (io), 124 IO (io), 125 IO (io), 127 IO (io), 128 TCK/IO (io), 129 LP (in), 134 IO (io), 135 IO (io), 137 IO (io), 138 IO (io), 139 IO (io), 140 IO (io), 141 IO (io), 142 IO (io), 143 IO (io), 144 IO (io), 145 IO (io), 146 IO (io), 147 IO (io), 148 IO (io), 149 IO (io), 151 IO (io), 152 IO (io), 153 IO (io), 154 IO (io), 155 IO (io), 156 IO (io), 158 IO (io), 159 SDI/IO (io), 160 IO (io), 161 IO/WD (io), 162 IO/WD (io), 163 IO (io), 165 IO (io), 166 IO (io), 167 IO (io), 168 IO/WD (io), 169 IO/WD (io), 170 IO (io), 171 QCLKD/IO (io), 172 IO (io), 173 IO (io), 174 IO (io), 175 IO (io), 176 IO/WD (io), 177 IO/WD (io), 178 PRA/IO (io), 179 IO (io), 180 CLKA/IO (io), 181 IO (io), 185 IO (io), 186 CLKB/IO (io), 187 IO (io), 188 PRB/IO (io), 189 IO (io), 190 IO/WD (io), 191 IO/WD (io), 192 IO (io), 193 IO (io), 194 IO/WD (io), 195 IO/WD (io), 196 QCLKC/IO (io), 197 IO (io), 198 IO (io), 199 IO (io), 200 IO (io), 201 IO (io), 203 IO/WD (io), 204 IO/WD (io), 205 IO (io), 206 IO (io), 207 DCLK/IO (io), 208 IO (io)
part B pins: 1 GND (power), 2 VCCA (power), 17 VCCA (power), 22 GND (power), 27 GND (power), 28 VCCI (power), 29 VCCA (power), 32 VCCA (power), 52 GND (power), 53 GND (power), 60 VCCI (power), 78 GND (power), 79 VCCA (power), 80 VCCI (power), 98 VCCI (power), 105 GND (power), 106 VCCA (power), 126 GND (power), 130 VCCA (power), 131 GND (power), 132 VCCI (power), 133 VCCA (power), 136 VCCA (power), 150 GND (power), 157 GND (power), 164 VCCI (power), 182 VCCI (power), 183 VCCA (power), 184 GND (power), 202 VCCI (power)

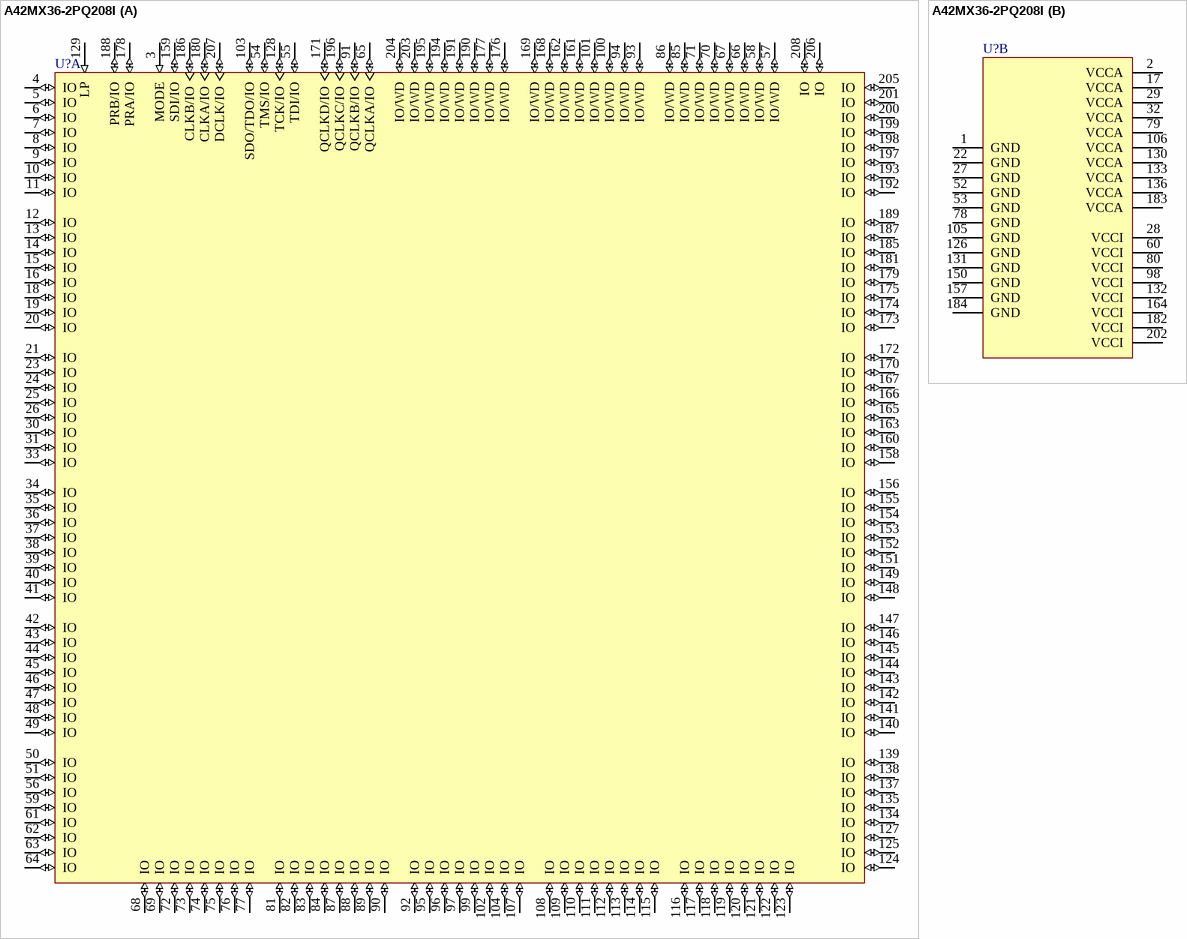
[diagram p99: symbol A42MX36-2PQ208I]

## A42MX36-2PQ208I
designator U?
A42MX36 FPGA, 176 User IOs, 208-Pin PQFP, Speed Grade 2, Industrial Grade; Published: 21-May-2003; LatestRevisionDate: 13-Apr-2006; LatestRevisionNote: IPC-7351 Footprint Added.; DatasheetVersion: v6.0 Jan-2004; PackageVersion: v9.2, Apr-2006; PackageReference: PQ208; Publisher: Altium Limited; PackageDescription: 208-Pin Plastic Quad Flat Pack (PQ208); Code_JEDEC: MS-029-FA-1; ComponentLink1Description: Manufacturer Link; ComponentLink1URL: http://www.actel.com/products/mx/index.html; ComponentLink2Description: Datasheet; ComponentLink2URL: http://www.actel.com/documents/MXDS.pdf
footprint PQ208_N (Shrink QFP, 208-Leads, Body 28x28mm, Pitch 0.5mm, IPC Medium Density)
footprint PQ208_L (Shrink QFP, 208-Leads, Body 28x28mm, Pitch 0.5mm, IPC High Density)
footprint PQ208_M (Shrink QFP, 208-Leads, Body 28x28mm, Pitch 0.5mm, IPC Low Density)
3D model A42MX36-PQ208 (208-Pin Plastic Quad Flat Pack (PQ208))
part A pins: 3 MODE (in), 4 IO (io), 5 IO (io), 6 IO (io), 7 IO (io), 8 IO (io), 9 IO (io), 10 IO (io), 11 IO (io), 12 IO (io), 13 IO (io), 14 IO (io), 15 IO (io), 16 IO (io), 18 IO (io), 19 IO (io), 20 IO (io), 21 IO (io), 23 IO (io), 24 IO (io), 25 IO (io), 26 IO (io), 30 IO (io), 31 IO (io), 33 IO (io), 34 IO (io), 35 IO (io), 36 IO (io), 37 IO (io), 38 IO (io), 39 IO (io), 40 IO (io), 41 IO (io), 42 IO (io), 43 IO (io), 44 IO (io), 45 IO (io), 46 IO (io), 47 IO (io), 48 IO (io), 49 IO (io), 50 IO (io), 51 IO (io), 54 TMS/IO (io), 55 TDI/IO (io), 56 IO (io), 57 IO/WD (io), 58 IO/WD (io), 59 IO (io), 61 IO (io), 62 IO (io), 63 IO (io), 64 IO (io), 65 QCLKA/IO (io), 66 IO/WD (io), 67 IO/WD (io), 68 IO (io), 69 IO (io), 70 IO/WD (io), 71 IO/WD (io), 72 IO (io), 73 IO (io), 74 IO (io), 75 IO (io), 76 IO (io), 77 IO (io), 81 IO (io), 82 IO (io), 83 IO (io), 84 IO (io), 85 IO/WD (io), 86 IO/WD (io), 87 IO (io), 88 IO (io), 89 IO (io), 90 IO (io), 91 QCLKB/IO (io), 92 IO (io), 93 IO/WD (io), 94 IO/WD (io), 95 IO (io), 96 IO (io), 97 IO (io), 99 IO (io), 100 IO/WD (io), 101 IO/WD (io), 102 IO (io), 103 SDO/TDO/IO (io), 104 IO (io), 107 IO (io), 108 IO (io), 109 IO (io), 110 IO (io), 111 IO (io), 112 IO (io), 113 IO (io), 114 IO (io), 115 IO (io), 116 IO (io), 117 IO (io), 118 IO (io), 119 IO (io), 120 IO (io), 121 IO (io), 122 IO (io), 123 IO (io), 124 IO (io), 125 IO (io), 127 IO (io), 128 TCK/IO (io), 129 LP (in), 134 IO (io), 135 IO (io), 137 IO (io), 138 IO (io), 139 IO (io), 140 IO (io), 141 IO (io), 142 IO (io), 143 IO (io), 144 IO (io), 145 IO (io), 146 IO (io), 147 IO (io), 148 IO (io), 149 IO (io), 151 IO (io), 152 IO (io), 153 IO (io), 154 IO (io), 155 IO (io), 156 IO (io), 158 IO (io), 159 SDI/IO (io), 160 IO (io), 161 IO/WD (io), 162 IO/WD (io), 163 IO (io), 165 IO (io), 166 IO (io), 167 IO (io), 168 IO/WD (io), 169 IO/WD (io), 170 IO (io), 171 QCLKD/IO (io), 172 IO (io), 173 IO (io), 174 IO (io), 175 IO (io), 176 IO/WD (io), 177 IO/WD (io), 178 PRA/IO (io), 179 IO (io), 180 CLKA/IO (io), 181 IO (io), 185 IO (io), 186 CLKB/IO (io), 187 IO (io), 188 PRB/IO (io), 189 IO (io), 190 IO/WD (io), 191 IO/WD (io), 192 IO (io), 193 IO (io), 194 IO/WD (io), 195 IO/WD (io), 196 QCLKC/IO (io), 197 IO (io), 198 IO (io), 199 IO (io), 200 IO (io), 201 IO (io), 203 IO/WD (io), 204 IO/WD (io), 205 IO (io), 206 IO (io), 207 DCLK/IO (io), 208 IO (io)
part B pins: 1 GND (power), 2 VCCA (power), 17 VCCA (power), 22 GND (power), 27 GND (power), 28 VCCI (power), 29 VCCA (power), 32 VCCA (power), 52 GND (power), 53 GND (power), 60 VCCI (power), 78 GND (power), 79 VCCA (power), 80 VCCI (power), 98 VCCI (power), 105 GND (power), 106 VCCA (power), 126 GND (power), 130 VCCA (power), 131 GND (power), 132 VCCI (power), 133 VCCA (power), 136 VCCA (power), 150 GND (power), 157 GND (power), 164 VCCI (power), 182 VCCI (power), 183 VCCA (power), 184 GND (power), 202 VCCI (power)

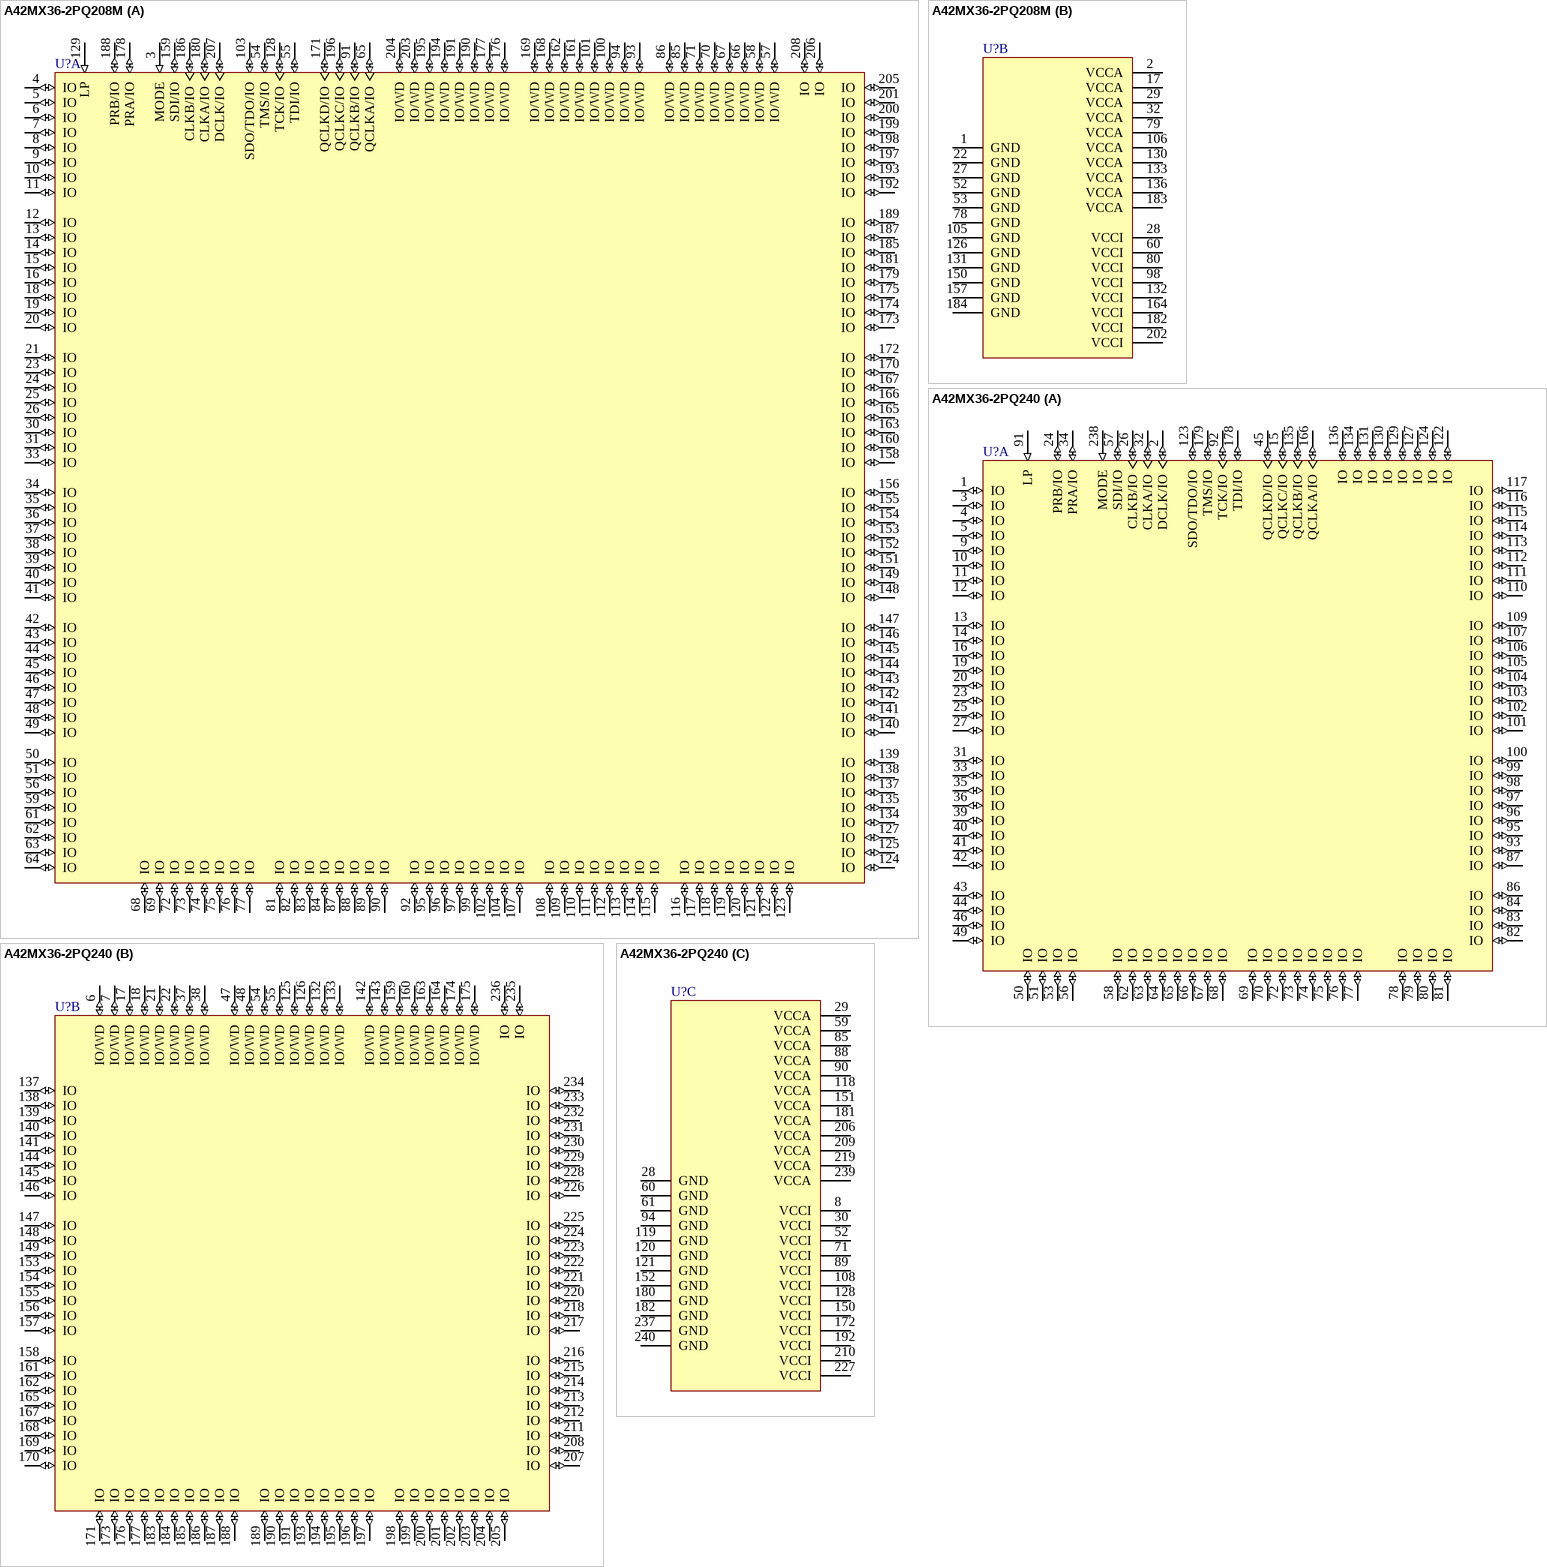
[diagram p100: symbols A42MX36-2PQ208M to A42MX36-2PQ240]

## A42MX36-2PQ208M
designator U?
A42MX36 FPGA, 176 User IOs, 208-Pin PQFP, Speed Grade 2, Military Grade; Published: 21-May-2003; LatestRevisionDate: 13-Apr-2006; LatestRevisionNote: IPC-7351 Footprint Added.; DatasheetVersion: v6.0 Jan-2004; PackageVersion: v9.2, Apr-2006; PackageReference: PQ208; Publisher: Altium Limited; PackageDescription: 208-Pin Plastic Quad Flat Pack (PQ208); Code_JEDEC: MS-029-FA-1; ComponentLink1Description: Manufacturer Link; ComponentLink1URL: http://www.actel.com/products/mx/index.html; ComponentLink2Description: Datasheet; ComponentLink2URL: http://www.actel.com/documents/MXDS.pdf
footprint PQ208_N (Shrink QFP, 208-Leads, Body 28x28mm, Pitch 0.5mm, IPC Medium Density)
footprint PQ208_L (Shrink QFP, 208-Leads, Body 28x28mm, Pitch 0.5mm, IPC High Density)
footprint PQ208_M (Shrink QFP, 208-Leads, Body 28x28mm, Pitch 0.5mm, IPC Low Density)
3D model A42MX36-PQ208 (208-Pin Plastic Quad Flat Pack (PQ208))
part A pins: 3 MODE (in), 4 IO (io), 5 IO (io), 6 IO (io), 7 IO (io), 8 IO (io), 9 IO (io), 10 IO (io), 11 IO (io), 12 IO (io), 13 IO (io), 14 IO (io), 15 IO (io), 16 IO (io), 18 IO (io), 19 IO (io), 20 IO (io), 21 IO (io), 23 IO (io), 24 IO (io), 25 IO (io), 26 IO (io), 30 IO (io), 31 IO (io), 33 IO (io), 34 IO (io), 35 IO (io), 36 IO (io), 37 IO (io), 38 IO (io), 39 IO (io), 40 IO (io), 41 IO (io), 42 IO (io), 43 IO (io), 44 IO (io), 45 IO (io), 46 IO (io), 47 IO (io), 48 IO (io), 49 IO (io), 50 IO (io), 51 IO (io), 54 TMS/IO (io), 55 TDI/IO (io), 56 IO (io), 57 IO/WD (io), 58 IO/WD (io), 59 IO (io), 61 IO (io), 62 IO (io), 63 IO (io), 64 IO (io), 65 QCLKA/IO (io), 66 IO/WD (io), 67 IO/WD (io), 68 IO (io), 69 IO (io), 70 IO/WD (io), 71 IO/WD (io), 72 IO (io), 73 IO (io), 74 IO (io), 75 IO (io), 76 IO (io), 77 IO (io), 81 IO (io), 82 IO (io), 83 IO (io), 84 IO (io), 85 IO/WD (io), 86 IO/WD (io), 87 IO (io), 88 IO (io), 89 IO (io), 90 IO (io), 91 QCLKB/IO (io), 92 IO (io), 93 IO/WD (io), 94 IO/WD (io), 95 IO (io), 96 IO (io), 97 IO (io), 99 IO (io), 100 IO/WD (io), 101 IO/WD (io), 102 IO (io), 103 SDO/TDO/IO (io), 104 IO (io), 107 IO (io), 108 IO (io), 109 IO (io), 110 IO (io), 111 IO (io), 112 IO (io), 113 IO (io), 114 IO (io), 115 IO (io), 116 IO (io), 117 IO (io), 118 IO (io), 119 IO (io), 120 IO (io), 121 IO (io), 122 IO (io), 123 IO (io), 124 IO (io), 125 IO (io), 127 IO (io), 128 TCK/IO (io), 129 LP (in), 134 IO (io), 135 IO (io), 137 IO (io), 138 IO (io), 139 IO (io), 140 IO (io), 141 IO (io), 142 IO (io), 143 IO (io), 144 IO (io), 145 IO (io), 146 IO (io), 147 IO (io), 148 IO (io), 149 IO (io), 151 IO (io), 152 IO (io), 153 IO (io), 154 IO (io), 155 IO (io), 156 IO (io), 158 IO (io), 159 SDI/IO (io), 160 IO (io), 161 IO/WD (io), 162 IO/WD (io), 163 IO (io), 165 IO (io), 166 IO (io), 167 IO (io), 168 IO/WD (io), 169 IO/WD (io), 170 IO (io), 171 QCLKD/IO (io), 172 IO (io), 173 IO (io), 174 IO (io), 175 IO (io), 176 IO/WD (io), 177 IO/WD (io), 178 PRA/IO (io), 179 IO (io), 180 CLKA/IO (io), 181 IO (io), 185 IO (io), 186 CLKB/IO (io), 187 IO (io), 188 PRB/IO (io), 189 IO (io), 190 IO/WD (io), 191 IO/WD (io), 192 IO (io), 193 IO (io), 194 IO/WD (io), 195 IO/WD (io), 196 QCLKC/IO (io), 197 IO (io), 198 IO (io), 199 IO (io), 200 IO (io), 201 IO (io), 203 IO/WD (io), 204 IO/WD (io), 205 IO (io), 206 IO (io), 207 DCLK/IO (io), 208 IO (io)
part B pins: 1 GND (power), 2 VCCA (power), 17 VCCA (power), 22 GND (power), 27 GND (power), 28 VCCI (power), 29 VCCA (power), 32 VCCA (power), 52 GND (power), 53 GND (power), 60 VCCI (power), 78 GND (power), 79 VCCA (power), 80 VCCI (power), 98 VCCI (power), 105 GND (power), 106 VCCA (power), 126 GND (power), 130 VCCA (power), 131 GND (power), 132 VCCI (power), 133 VCCA (power), 136 VCCA (power), 150 GND (power), 157 GND (power), 164 VCCI (power), 182 VCCI (power), 183 VCCA (power), 184 GND (power), 202 VCCI (power)

## A42MX36-2PQ240
designator U?
A42MX36 FPGA, 202 User IOs, 240-Pin PQFP, Speed Grade 2, Commercial Grade; Published: 21-May-2003; LatestRevisionDate: 13-Apr-2006; LatestRevisionNote: IPC-7351 Footprint Added.; DatasheetVersion: v6.0 Jan-2004; PackageVersion: v9.2, Apr-2006; PackageReference: PQ240; Publisher: Altium Limited; PackageDescription: 240-Pin Plastic Quad Flat Pack (PQ240); Code_JEDEC: MS-029-GA; ComponentLink1Description: Manufacturer Link; ComponentLink1URL: http://www.actel.com/products/mx/index.html; ComponentLink2Description: Datasheet; ComponentLink2URL: http://www.actel.com/documents/MXDS.pdf
footprint PQ240_N (Shrink QFP, 240-Leads, Body 32x32mm, Pitch 0.5mm, IPC Medium Density)
footprint PQ240_L (Shrink QFP, 240-Leads, Body 32x32mm, Pitch 0.5mm, IPC High Density)
footprint PQ240_M (Shrink QFP, 240-Leads, Body 32x32mm, Pitch 0.5mm, IPC Low Density)
3D model A42MX36-PQ240 (240-Pin Plastic Quad Flat Pack (PQ240))
part A pins: 1 IO (io), 2 DCLK/IO (io), 3 IO (io), 4 IO (io), 5 IO (io), 9 IO (io), 10 IO (io), 11 IO (io), 12 IO (io), 13 IO (io), 14 IO (io), 15 QCLKC/IO (io), 16 IO (io), 19 IO (io), 20 IO (io), 23 IO (io), 24 PRB/IO (io), 25 IO (io), 26 CLKB/IO (io), 27 IO (io), 31 IO (io), 32 CLKA/IO (io), 33 IO (io), 34 PRA/IO (io), 35 IO (io), 36 IO (io), 39 IO (io), 40 IO (io), 41 IO (io), 42 IO (io), 43 IO (io), 44 IO (io), 45 QCLKD/IO (io), 46 IO (io), 49 IO (io), 50 IO (io), 51 IO (io), 53 IO (io), 56 IO (io), 57 SDI/IO (io), 58 IO (io), 62 IO (io), 63 IO (io), 64 IO (io), 65 IO (io), 66 IO (io), 67 IO (io), 68 IO (io), 69 IO (io), 70 IO (io), 72 IO (io), 73 IO (io), 74 IO (io), 75 IO (io), 76 IO (io), 77 IO (io), 78 IO (io), 79 IO (io), 80 IO (io), 81 IO (io), 82 IO (io), 83 IO (io), 84 IO (io), 86 IO (io), 87 IO (io), 91 LP (in) "Datasheet Ver6.0", 92 TCK/IO (io), 93 IO (io), 95 IO (io), 96 IO (io), 97 IO (io), 98 IO (io), 99 IO (io), 100 IO (io), 101 IO (io), 102 IO (io), 103 IO (io), 104 IO (io), 105 IO (io), 106 IO (io), 107 IO (io), 109 IO (io), 110 IO (io), 111 IO (io), 112 IO (io), 113 IO (io), 114 IO (io), 115 IO (io), 116 IO (io), 117 IO (io), 122 IO (io), 123 SDO/TDO/IO (io), 124 IO (io), 127 IO (io), 129 IO (io), 130 IO (io), 131 IO (io), 134 IO (io), 135 QCLKB/IO (io), 136 IO (io), 166 QCLKA/IO (io), 178 TDI/IO (io), 179 TMS/IO (io), 238 MODE (in)
part B pins: 6 IO/WD (io), 7 IO/WD (io), 17 IO/WD (io), 18 IO/WD (io), 21 IO/WD (io), 22 IO/WD (io), 37 IO/WD (io), 38 IO/WD (io), 47 IO/WD (io), 48 IO/WD (io), 54 IO/WD (io), 55 IO/WD (io), 125 IO/WD (io), 126 IO/WD (io), 132 IO/WD (io), 133 IO/WD (io), 137 IO (io), 138 IO (io), 139 IO (io), 140 IO (io), 141 IO (io), 142 IO/WD (io), 143 IO/WD (io), 144 IO (io), 145 IO (io), 146 IO (io), 147 IO (io), 148 IO (io), 149 IO (io), 153 IO (io), 154 IO (io), 155 IO (io), 156 IO (io), 157 IO (io), 158 IO (io), 159 IO/WD (io), 160 IO/WD (io), 161 IO (io), 162 IO (io), 163 IO/WD (io), 164 IO/WD (io), 165 IO (io), 167 IO (io), 168 IO (io), 169 IO (io), 170 IO (io), 171 IO (io), 173 IO (io), 174 IO/WD (io), 175 IO/WD (io), 176 IO (io), 177 IO (io), 183 IO (io), 184 IO (io), 185 IO (io), 186 IO (io), 187 IO (io), 188 IO (io), 189 IO (io), 190 IO (io), 191 IO (io), 193 IO (io), 194 IO (io), 195 IO (io), 196 IO (io), 197 IO (io), 198 IO (io), 199 IO (io), 200 IO (io), 201 IO (io), 202 IO (io), 203 IO (io), 204 IO (io), 205 IO (io), 207 IO (io), 208 IO (io), 211 IO (io), 212 IO (io), 213 IO (io), 214 IO (io), 215 IO (io), 216 IO (io), 217 IO (io), 218 IO (io), 220 IO (io), 221 IO (io), 222 IO (io), 223 IO (io), 224 IO (io), 225 IO (io), 226 IO (io), 228 IO (io), 229 IO (io), 230 IO (io), 231 IO (io), 232 IO (io), 233 IO (io), 234 IO (io), 235 IO (io), 236 IO (io)
part C pins: 8 VCCI (power), 28 GND (power), 29 VCCA (power), 30 VCCI (power), 52 VCCI (power), 59 VCCA (power), 60 GND (power), 61 GND (power), 71 VCCI (power), 85 VCCA (power), 88 VCCA (power), 89 VCCI (power), 90 VCCA (power), 94 GND (power), 108 VCCI (power), 118 VCCA (power), 119 GND (power), 120 GND (power), 121 GND (power), 128 VCCI (power), 150 VCCI (power), 151 VCCA (power), 152 GND (power), 172 VCCI (power), 180 GND (power), 181 VCCA (power), 182 GND (power), 192 VCCI (power), 206 VCCA (power), 209 VCCA (power), 210 VCCI (power), 219 VCCA (power), 227 VCCI (power), 237 GND (power), 239 VCCA (power), 240 GND (power)

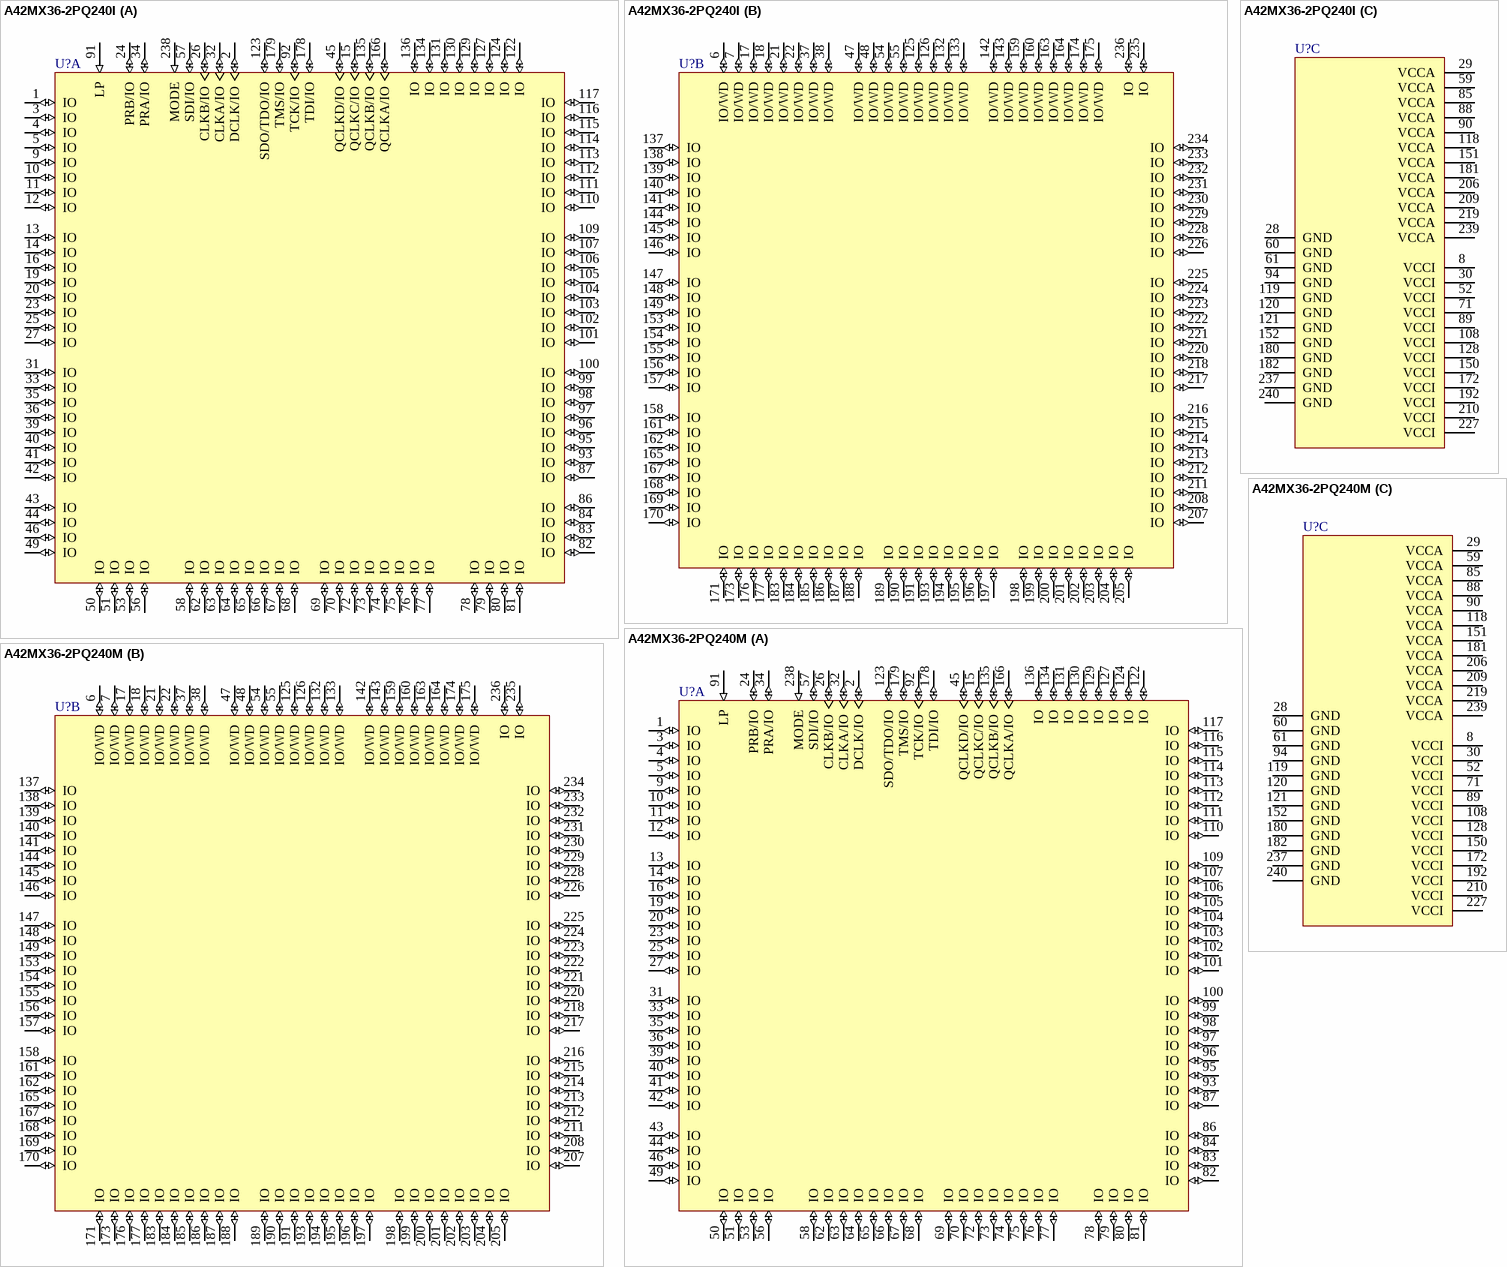
[diagram p101: symbols A42MX36-2PQ240I to A42MX36-2PQ240M]